# Altium schematic symbol library integrated.SchLib: 126 symbols
Pins are listed as number, name and electrical type; pins without a type are passive.

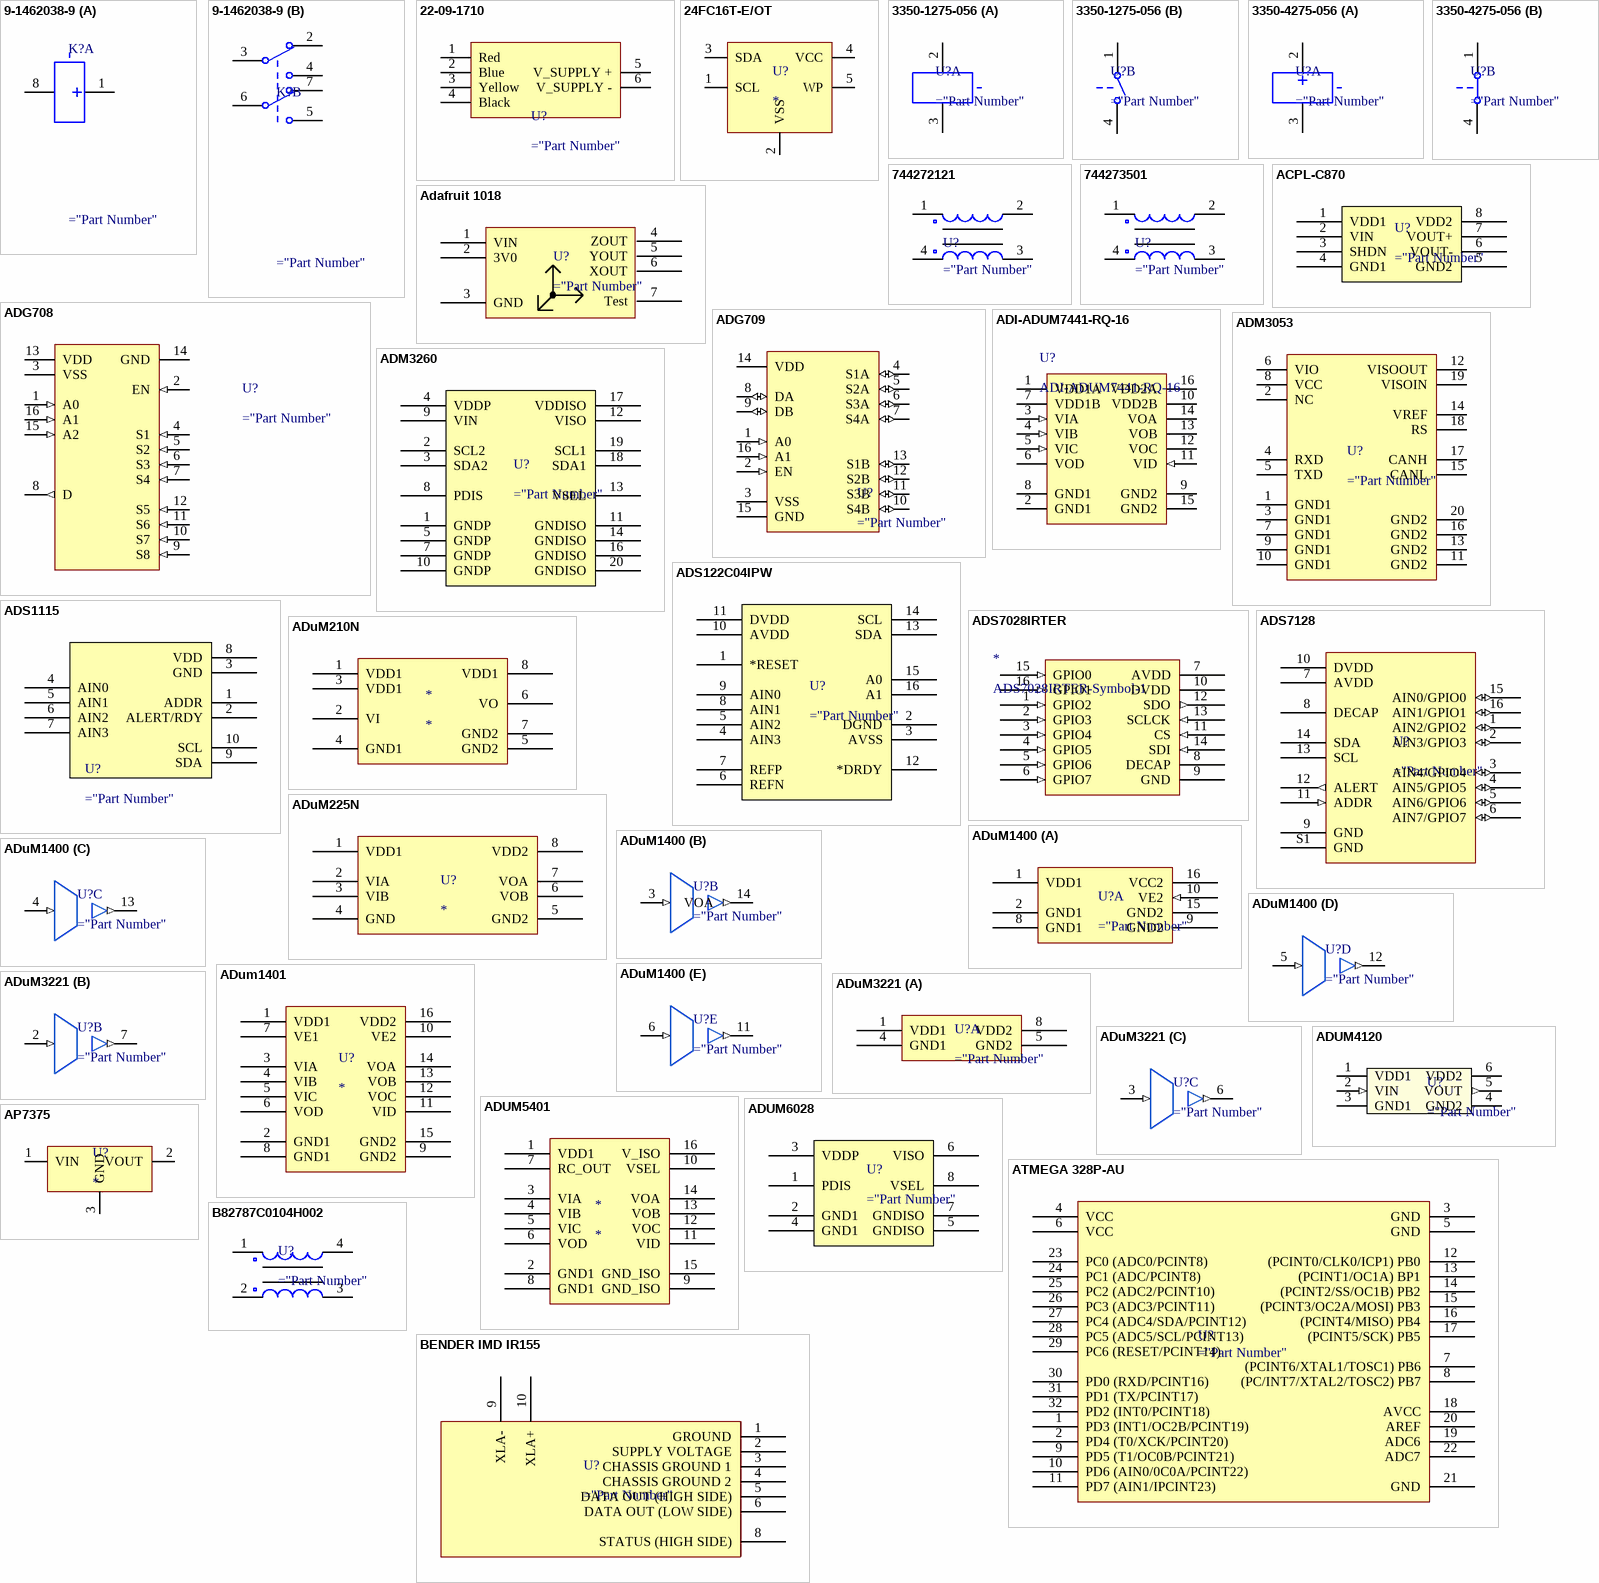
[diagram p0: symbols 9-1462038-9 to BENDER IMD IR155]

## 9-1462038-9
designator K?
part A pins: 1, 8
part B pins: 2, 3, 4, 5, 6, 7

## 22-09-1710
designator U?
pins: 1 Red (power), 2 Blue (power), 3 Yellow (power), 4 Black (power), 5 V_SUPPLY + (power), 6 V_SUPPLY - (power)

## 24FC16T-E/OT
designator U?
pins: 1 SCL, 2 VSS, 3 SDA, 4 VCC, 5 WP

## 3350-1275-056
designator U?
part A pins: 2, 3
part B pins: 1, 4

## 3350-4275-056
designator U?
part A pins: 2, 3
part B pins: 1, 4

## 744272121
designator U?
footprint INDC3216 (Chip Inductor, Body 3.2x1.6mm, IPC High Density)
footprint INDC4532 (Chip Inductor, Body 4.5x3.2mm, IPC High Density)
pins: 1, 2, 3 (power), 4

## 744273501
designator U?
footprint INDC3216 (Chip Inductor, Body 3.2x1.6mm, IPC High Density)
footprint INDC4532 (Chip Inductor, Body 4.5x3.2mm, IPC High Density)
pins: 1, 2, 3 (power), 4

## ACPL-C870
designator U?
pins: 1 VDD1, 2 VIN, 3 SHDN, 4 GND1, 5 GND2, 6 VOUT-, 7 VOUT+, 8 VDD2

## Adafruit 1018
designator U?
pins: 1 VIN, 2 3V0, 3 GND, 4 ZOUT, 5 YOUT, 6 XOUT, 7 Test

## ADG708
designator U?
footprint AD 16-TSSOP
pins: 1 A0 (in), 2 EN (in), 3 VSS (power), 4 S1 (in), 5 S2 (in), 6 S3 (in), 7 S4 (in), 8 D (out), 9 S8 (in), 10 S7 (in), 11 S6 (in), 12 S5 (in), 13 VDD (power), 14 GND (power), 15 A2 (in), 16 A1 (in)

## ADG709
designator U?
pins: 1 A0 (in) "Serial Data Input", 2 EN (in) "Serial Data Input", 3 VSS (power) "Serial Data Input", 4 S1A (io) "Serial Data Input", 5 S2A (io) "Serial Data Input", 6 S3A (io) "Serial Data Input", 7 S4A (io) "Serial Data Input", 8 DA (io) "Serial Data Input", 9 DB (io) "Serial Data Input", 10 S4B (io) "Serial Data Input", 11 S3B (io) "Serial Data Input", 12 S2B (io) "Serial Data Input", 13 S1B (io) "Serial Data Input", 14 VDD (power) "Serial Data Input", 15 GND (power) "Serial Data Input", 16 A1 (in) "Serial Data Input"

## ADI-ADUM7441-RQ-16
designator U?
pins: 1 VDD1A (power) "Supply Voltage A for Isolator Side 1 (3.0 V to 5.5 V). Pin 1 must be connected externally to Pin 7. Connect a ceramic bypass capacitor of value 0.01 uF to 0.1 uF between VDD1A (Pin 1) and GND1 (Pin 2).", 2 GND1 (power) "Ground 1. Ground reference for Isolator Side 1. Pin 2 and Pin 8 are internally connected, and connecting both to GND1 is recommended.", 3 VIA (in) "Logic Input A.", 4 VIB (in) "Logic Input B.", 5 VIC (in) "Logic Input C.", 6 VOD (hiz) "Logic Output D.", 7 VDD1B (power) "Supply Voltage B for Isolator Side 1 (3.0 V to 5.5 V). Pin 7 must be connected externally to Pin 1. Connect a ceramic bypass capacitor of value 0.01 uF to 0.1 uF between VDD1B (Pin 7) and GND1 (Pin 8).", 8 GND1 (power) "Ground 1. Ground reference for Isolator Side 1. Pin 2 and Pin 8 are internally connected, and connecting both to GND1 is recommended.", 9 GND2 (power) "Ground 2. Ground reference for Isolator Side 2. Pin 9 and Pin 15 are internally connected, and connecting both to GND2 is recommended.", 10 VDD2B (power) "Supply Voltage B for Isolator Side 2 (3.0 V to 5.5 V). Pin 10 must be connected externally to Pin 16. Connect a ceramic bypass capacitor of value 0.01 uF to 0.1 uF between VDD2B (Pin 10) and GND2 (Pin 9).", 11 VID (in) "Logic Input D.", 12 VOC (hiz) "Logic Output C.", 13 VOB (hiz) "Logic Output B.", 14 VOA (hiz) "Logic Output A.", 15 GND2 (power) "Ground 2. Ground reference for Isolator Side 2. Pin 9 and Pin 15 are internally connected, and connecting both to GND2 is recommended.", 16 VDD2A (power) "Supply Voltage A for Isolator Side 2 (3.0 V to 5.5 V). Pin 16 must be connected externally to Pin 10. Connect a ceramic bypass capacitor of value 0.01 uF to 0.1 uF between VDD2A (Pin 16) and GND2 (Pin 15)."

## ADM3053
designator U?
pins: 1 GND1, 2 NC, 3 GND1, 4 RXD, 5 TXD, 6 VIO, 7 GND1, 8 VCC, 9 GND1, 10 GND1, 11 GND2, 12 VISOOUT, 13 GND2, 14 VREF, 15 CANL, 16 GND2, 17 CANH, 18 RS, 19 VISOIN, 20 GND2

## ADM3260
designator U?
pins: 1 GNDP, 2 SCL2, 3 SDA2, 4 VDDP, 5 GNDP, 7 GNDP, 8 PDIS, 9 VIN, 10 GNDP, 11 GNDISO, 12 VISO, 13 VSEL, 14 GNDISO, 16 GNDISO, 17 VDDISO, 18 SDA1, 19 SCL1, 20 GNDISO

## ADS122C04IPW
designator U?
pins: 1 *RESET, 2 DGND, 3 AVSS, 4 AIN3, 5 AIN2, 6 REFN, 7 REFP, 8 AIN1, 9 AIN0, 10 AVDD, 11 DVDD, 12 *DRDY, 13 SDA, 14 SCL, 15 A0, 16 A1

## ADS1115
designator U?
pins: 1 ADDR, 2 ALERT/RDY, 3 GND, 4 AIN0, 5 AIN1, 6 AIN2, 7 AIN3, 8 VDD, 9 SDA, 10 SCL

## ADS7028IRTER
designator *, comment ADS7028IRTER-Symbol-1
pins: 1 GPIO2 (in), 2 GPIO3 (in), 3 GPIO4 (in), 4 GPIO5 (in), 5 GPIO6 (in), 6 GPIO7 (in), 7 AVDD (power), 8 DECAP (power), 9 GND (power), 10 DVDD (power), 11 CS (in), 12 SDO (out), 13 SCLCK (in), 14 SDI (in), 15 GPIO0 (in), 16 GPIO1 (in)

## ADS7128
designator U?
pins: 1 AIN2/GPIO2 (io), 2 AIN3/GPIO3 (io), 3 AIN4/GPIO4 (io), 4 AIN5/GPIO5 (io), 5 AIN6/GPIO6 (io), 6 AIN7/GPIO7 (io), 7 AVDD (power), 8 DECAP (power), 9 GND (power), 10 DVDD (power), 11 ADDR (in), 12 ALERT (out), 13 SCL, 14 SDA, 15 AIN0/GPIO0 (io), 16 AIN1/GPIO1 (io), S1 GND (power)

## ADuM210N
designator *
pins: 1 VDD1, 2 VI, 3 VDD1, 4 GND1, 5 GND2, 6 VO, 7 GND2, 8 VDD1

## ADuM225N
designator U?
pins: 1 VDD1, 2 VIA, 3 VIB, 4 GND, 5 GND2, 6 VOB, 7 VOA, 8 VDD2

## ADuM1400
designator U?
part A pins: 1 VDD1 (power) "Output", 2 GND1 (power) "Output", 8 GND1 (power) "Output", 9 GND2 (power) "Output", 10 VE2 (in) "Output", 15 GND2 (power) "Output", 16 VCC2 (power) "Output"
part B pins: 3 VIA (in) "Output", 14 VOA (out) "Output"
part C pins: 4 VIB (in) "Output", 13 VOB (out) "Output"
part D pins: 5 VIC (in) "Output", 12 VOC (out) "Output"
part E pins: 6 VID (in) "Output", 11 VOD (out) "Output"

## ADum1401
designator U?
pins: 1 VDD1, 2 GND1, 3 VIA, 4 VIB, 5 VIC, 6 VOD, 7 VE1, 8 GND1, 9 GND2, 10 VE2, 11 VID, 12 VOC, 13 VOB, 14 VOA, 15 GND2, 16 VDD2

## ADuM3221
designator U?
part A pins: 1 VDD1 "Output", 4 GND1 "Output", 5 GND2 "Output", 8 VDD2 "Output"
part B pins: 2 VIA (in) "Output", 7 VOA (out) "Output"
part C pins: 3 VIA (in) "Output", 6 VOA (out) "Output"

## ADUM4120
designator U?
pins: 1 VDD1 (power), 2 VIN (in), 3 GND1 (power), 4 GND2 (power), 5 VOUT (out), 6 VDD2 (power)

## ADUM5401
designator *
pins: 1 VDD1, 2 GND1, 3 VIA, 4 VIB, 5 VIC, 6 VOD, 7 RC_OUT, 8 GND1, 9 GND_ISO, 10 VSEL, 11 VID, 12 VOC, 13 VOB, 14 VOA, 15 GND_ISO, 16 V_ISO

## ADUM6028
designator U?
pins: 1 PDIS, 2 GND1, 3 VDDP, 4 GND1, 5 GNDISO, 6 VISO, 7 GNDISO, 8 VSEL

## AP7375
designator U?
pins: 1 VIN, 2 VOUT, 3 GND

## ATMEGA 328P-AU
designator U?
pins: 1 PD3 (INT1/OC2B/PCINT19) "(PCINT19/OC2B/INT1) PD3", 2 PD4 (T0/XCK/PCINT20) "(PCINT20/XCK/T0) PD4", 3 GND, 4 VCC, 5 GND, 6 VCC, 7 (PCINT6/XTAL1/TOSC1) PB6, 8 (PC/INT7/XTAL2/TOSC2) PB7, 9 PD5 (T1/OC0B/PCINT21) "(PCINT21/OC0B/T1) PD5", 10 PD6 (AIN0/0C0A/PCINT22) "(PCINT22/OC0A/AIN0) PD6", 11 PD7 (AIN1/IPCINT23) "(PCINT23/AIN1) PD7", 12 (PCINT0/CLK0/ICP1) PB0, 13 (PCINT1/OC1A) BP1, 14 (PCINT2/SS/OC1B) PB2, 15 (PCINT3/OC2A/MOSI) PB3, 16 (PCINT4/MISO) PB4, 17 (PCINT5/SCK) PB5 "PB5 (SCK/PCINT5)", 18 AVCC, 19 ADC6, 20 AREF, 21 GND, 22 ADC7, 23 PC0 (ADC0/PCINT8), 24 PC1 (ADC/PCINT8), 25 PC2 (ADC2/PCINT10), 26 PC3 (ADC3/PCINT11), 27 PC4 (ADC4/SDA/PCINT12), 28 PC5 (ADC5/SCL/PCINT13), 29 PC6 (RESET/PCINT14), 30 PD0 (RXD/PCINT16), 31 PD1 (TX/PCINT17), 32 PD2 (INT0/PCINT18)

## B82787C0104H002
designator U?
pins: 1, 2, 3, 4

## BENDER IMD IR155
designator U?
pins: 1 GROUND "Output", 2 SUPPLY VOLTAGE "Output", 3 CHASSIS GROUND 1 "Output", 4 CHASSIS GROUND 2 "Output", 5 DATA OUT (HIGH SIDE) "Output", 6 DATA OUT (LOW SIDE) "Output", 8 STATUS (HIGH SIDE) "Output", 9 XLA- "Output", 10 XLA+ "Output"

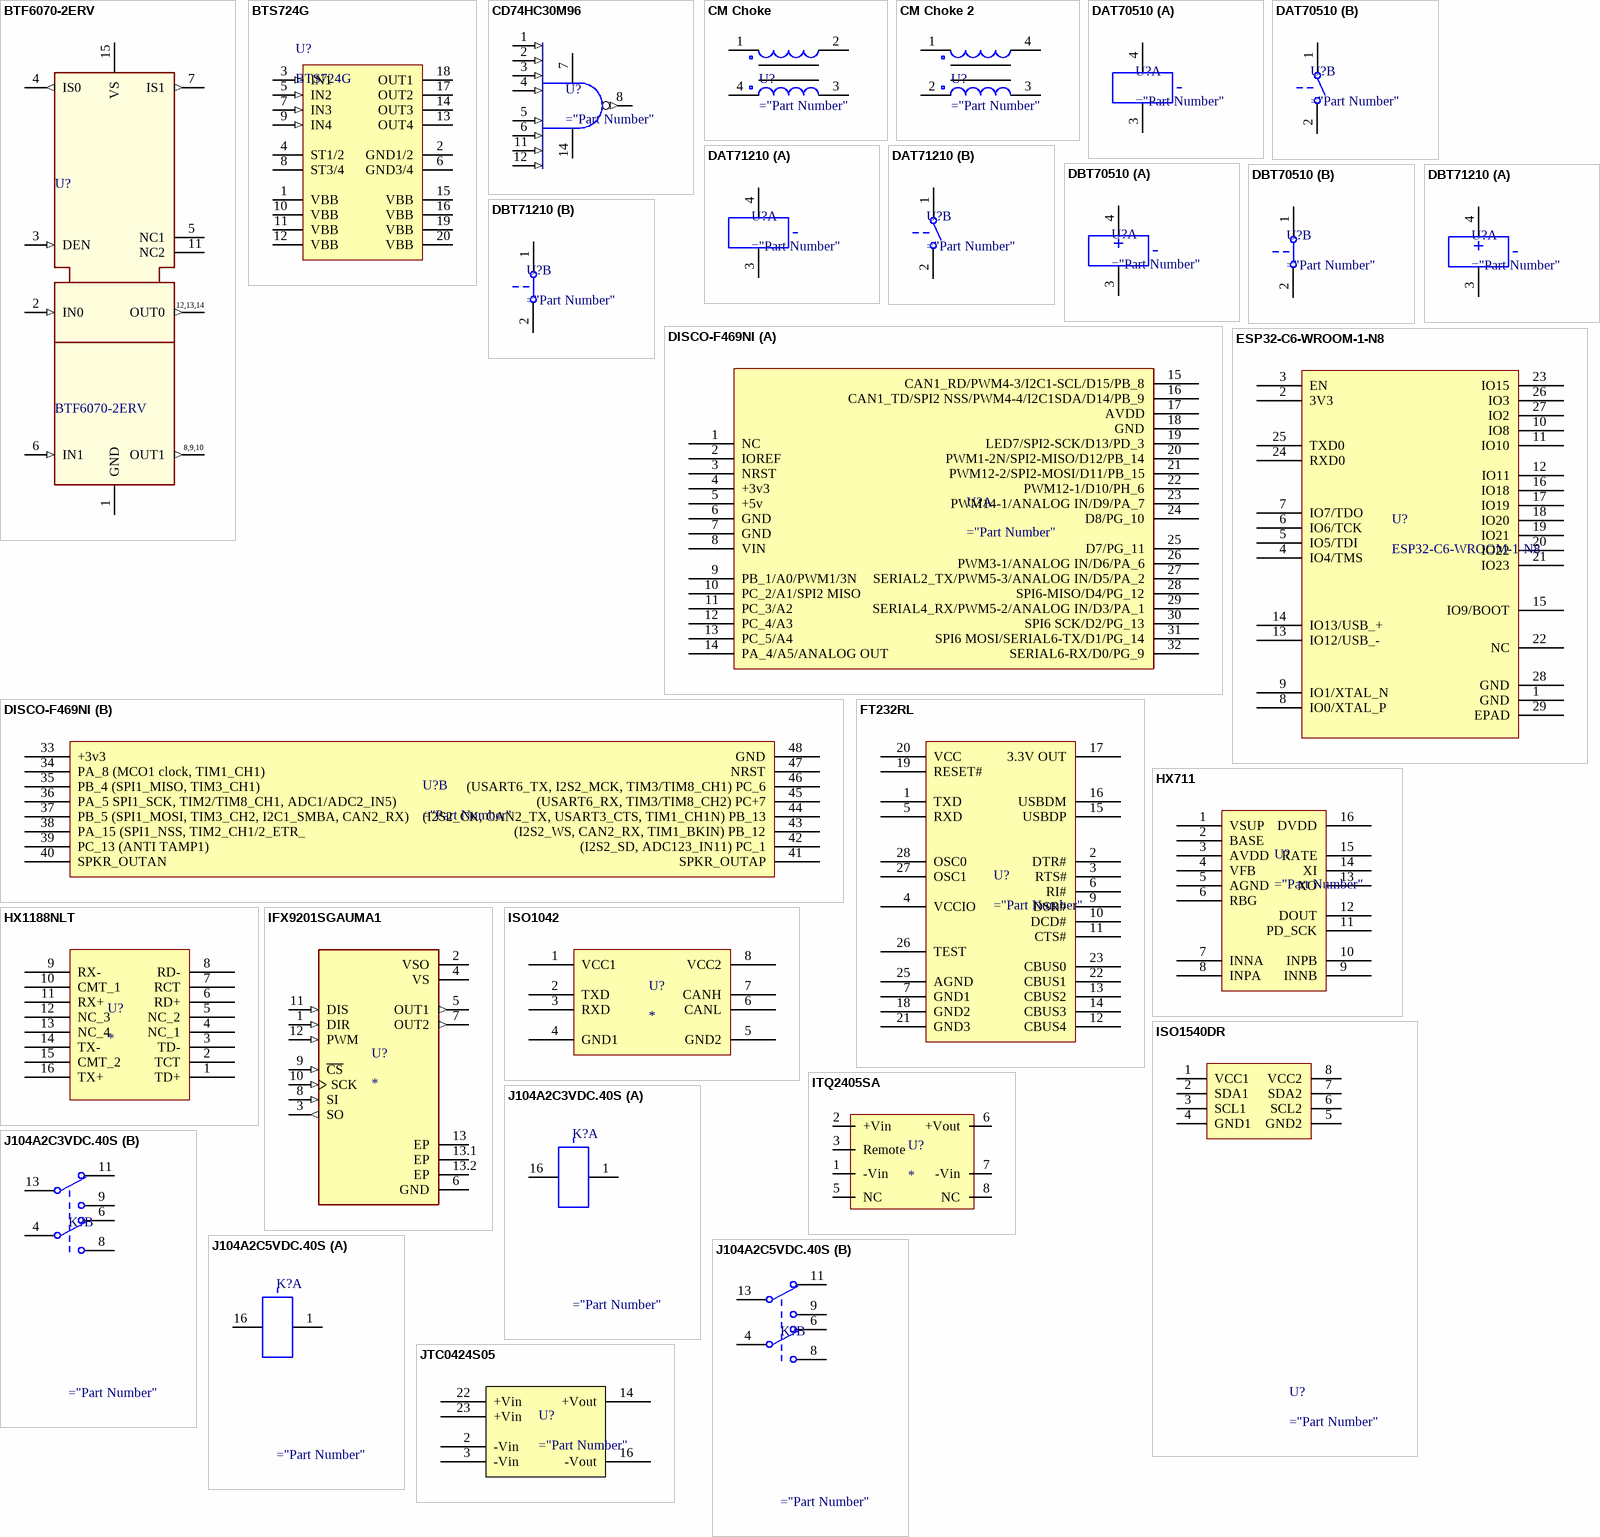
[diagram p1: symbols BTF6070-2ERV to JTC0424S05]

## BTF6070-2ERV
designator U?
Smart High-Side Power Switch, Dual Channel; Manufacturer: Infineon Technologies; PackageReference: PG-TDSO-14-21; ManufacturerPartNumber: BTF6070-2ERV
pins: 1 GND (power) "Ground", 2 IN0 (in) "Input channel 0", 3 DEN (in) "Diagnostic Enable", 4 IS0 (out) "Sense 0", 5 NC1 "Not Connected", 6 IN1 (in) "Input channel 1", 7 IS1 (out) "Sense 1", 8 OUT1 (out) "Output 1", 9 OUT1 (out) "Output 1", 10 OUT1 (out) "Output 1", 11 NC2 "Not Connected", 12 OUT0 (out) "Output 0", 13 OUT0 (out) "Output 0", 14 OUT0 (out) "Output 0", 15 VS (power) "Voltage Supply"
text: 12,13,14; 8,9,10

## BTS724G
designator U?
Smart High-Side Power Switch, 4 Channels, 1.6 A Load Current, -40 to 150 degC, PG-DSO-20-31, Reel, Green; Manufacturer: Infineon; Group: Automotive Qualified; RON(max) @ 150degreesC: 180 mOhm; Recommended Operating Voltage Min.: 5.5 V; Recommended Operating Voltage Max.: 40 V; Green: TRUE; toff (max): 270 us; Load Current (typ): 1.6 A; ton (max): 250 us; RON @ 25degreesC: 90 mOhm; Ptot (max): 3.6 W; Channels: 4; PartNumber: BTS724G; ComponentLink1Description: Manufacturer URL; ComponentLink2Description: Datasheet; DatasheetVersion: Rev. 1.0; ComponentLink3URL: http://www.infineon.com/dgdl/BTS711L1_DS13.pdf?folderId=db3a304314dca389011537739e37155f&fileId=db3a30432239cccd0122e55f98d43c5f&sId=db3a30433d68e984013d81ad4c8d73f2; ComponentLink1URL: http://www.infineon.com/; Packing: Reel; ComponentLink2URL: http://www.infineon.com/dgdl/BTS724G.pdf?folderId=db3a304314dca389011537739e37155f&fileId=db3a304316f112290116f299e245725c&location=en.Products.Automotive_ICs.Smart_High-_and_Low-Side_Switches.PROFET__-_Smart_High_Side_Switches.DATASHEET.BTS724G.pdf; ComponentLink3Description: Package Specification; PackageVersion: Jan-12; Halogen-free: TRUE; Mounting Technology: Surface Mount; PackageReference: PG-DSO-20-31; PackageDescription: 20-Pin Plastic (Green) Dual Small Outline Package, 12.7 x 7.5 mm Body, 1.27 mm Pitch
footprint INF-PG-DSO-20-31_M
footprint INF-PG-DSO-20-31_L
footprint INF-PG-DSO-20-31_N
pins: 1 VBB (power) "Positive power supply voltage. Design the wiring for the simultaneous max. short circuit currents from channel 1 to 2 and also for low thermal resistance", 2 GND1/2 (power) "Ground of chip 1 (channel 1,2)", 3 IN1 (in) "Input 1 activates channel 1 in case of logic high signal", 4 ST1/2 (oc) "Diagnostic feedback 1/2,3/4 of channel 1,2,3,4 open drain, low on failure", 5 IN2 (in) "Input 2 activates channel 2 in case of logic high signal", 6 GND3/4 (power) "Ground of chip 2 (channel 3,4)", 7 IN3 (in) "Input 3 activates channel 3 in case of logic high signal", 8 ST3/4 (oc) "Diagnostic feedback 1/2,3/4 of channel 1,2,3,4 open drain, low on failure", 9 IN4 (in) "Input 4 activates channel 4 in case of logic high signal", 10 VBB (power) "Positive power supply voltage. Design the wiring for the simultaneous max. short circuit currents from channel 1 to 2 and also for low thermal resistance", 11 VBB (power) "Positive power supply voltage. Design the wiring for the simultaneous max. short circuit currents from channel 1 to 2 and also for low thermal resistance", 12 VBB (power) "Positive power supply voltage. Design the wiring for the simultaneous max. short circuit currents from channel 1 to 2 and also for low thermal resistance", 13 OUT4 (power) "Output 1 protected high-side power output of channel 1. Design the wiring for the max. short circuit current", 14 OUT3 (power) "Output 1 protected high-side power output of channel 1. Design the wiring for the max. short circuit current", 15 VBB (power) "Positive power supply voltage. Design the wiring for the simultaneous max. short circuit currents from channel 1 to 2 and also for low thermal resistance", 16 VBB (power) "Positive power supply voltage. Design the wiring for the simultaneous max. short circuit currents from channel 1 to 2 and also for low thermal resistance", 17 OUT2 (power) "Output 1 protected high-side power output of channel 1. Design the wiring for the max. short circuit current", 18 OUT1 (power) "Output 1 protected high-side power output of channel 1. Design the wiring for the max. short circuit current", 19 VBB (power) "Positive power supply voltage. Design the wiring for the simultaneous max. short circuit currents from channel 1 to 2 and also for low thermal resistance", 20 VBB (power) "Positive power supply voltage. Design the wiring for the simultaneous max. short circuit currents from channel 1 to 2 and also for low thermal resistance"

## CD74HC30M96
designator U?
pins: 1 Input (in), 2 Input (in), 3 Input (in), 4 Input (in), 5 Input (in), 6 Input (in), 7 GND (power) "Serial Data Input", 8 Output (out), 11 Input (in), 12 Input (in), 14 VCC (power) "Serial Data Input"
1 alternate drawing of the same symbol

## CM Choke
designator U?
footprint INDC3216 (Chip Inductor, Body 3.2x1.6mm, IPC High Density)
footprint INDC4532 (Chip Inductor, Body 4.5x3.2mm, IPC High Density)
pins: 1, 2, 3 (power), 4

## CM Choke 2
designator U?
footprint INDC3216 (Chip Inductor, Body 3.2x1.6mm, IPC High Density)
footprint INDC4532 (Chip Inductor, Body 4.5x3.2mm, IPC High Density)
pins: 1, 2, 3 (power), 4

## DAT70510
designator U?
part A pins: 3, 4
part B pins: 1, 2

## DAT71210
designator U?
part A pins: 3, 4
part B pins: 1, 2

## DBT70510
designator U?
part A pins: 3, 4
part B pins: 1, 2

## DBT71210
designator U?
part A pins: 3, 4
part B pins: 1, 2

## DISCO-F469NI
designator U?
part A pins: 1 NC, 2 IOREF, 3 NRST, 4 +3v3, 5 +5v, 6 GND, 7 GND, 8 VIN, 9 PB_1/A0/PWM1/3N, 10 PC_2/A1/SPI2 MISO, 11 PC_3/A2, 12 PC_4/A3, 13 PC_5/A4, 14 PA_4/A5/ANALOG OUT, 15 CAN1_RD/PWM4-3/I2C1-SCL/D15/PB_8, 16 CAN1_TD/SPI2 NSS/PWM4-4/I2C1SDA/D14/PB_9, 17 AVDD, 18 GND, 19 LED7/SPI2-SCK/D13/PD_3, 20 PWM1-2N/SPI2-MISO/D12/PB_14, 21 PWM12-2/SPI2-MOSI/D11/PB_15, 22 PWM12-1/D10/PH_6, 23 PWM14-1/ANALOG IN/D9/PA_7, 24 D8/PG_10, 25 D7/PG_11, 26 PWM3-1/ANALOG IN/D6/PA_6, 27 SERIAL2_TX/PWM5-3/ANALOG IN/D5/PA_2, 28 SPI6-MISO/D4/PG_12, 29 SERIAL4_RX/PWM5-2/ANALOG IN/D3/PA_1, 30 SPI6 SCK/D2/PG_13, 31 SPI6 MOSI/SERIAL6-TX/D1/PG_14, 32 SERIAL6-RX/D0/PG_9
part B pins: 33 +3v3, 34 PA_8 (MCO1 clock, TIM1_CH1), 35 PB_4 (SPI1_MISO, TIM3_CH1), 36 PA_5 SPI1_SCK, TIM2/TIM8_CH1, ADC1/ADC2_IN5), 37 PB_5 (SPI1_MOSI, TIM3_CH2, I2C1_SMBA, CAN2_RX), 38 PA_15 (SPI1_NSS, TIM2_CH1/2_ETR_, 39 PC_13 (ANTI TAMP1), 40 SPKR_OUTAN, 41 SPKR_OUTAP, 42 (I2S2_SD, ADC123_IN11) PC_1, 43 (I2S2_WS, CAN2_RX, TIM1_BKIN) PB_12, 44 (I2S2_CK, CAN2_TX, USART3_CTS, TIM1_CH1N) PB_13, 45 (USART6_RX, TIM3/TIM8_CH2) PC+7, 46 (USART6_TX, I2S2_MCK, TIM3/TIM8_CH1) PC_6, 47 NRST, 48 GND

## ESP32-C6-WROOM-1-N8
designator U?
pins: 1 GND, 2 3V3, 3 EN, 4 IO4/TMS, 5 IO5/TDI, 6 IO6/TCK, 7 IO7/TDO, 8 IO0/XTAL_P, 9 IO1/XTAL_N, 10 IO8, 11 IO10, 12 IO11, 13 IO12/USB_-, 14 IO13/USB_+, 15 IO9/BOOT, 16 IO18, 17 IO19, 18 IO20, 19 IO21, 20 IO22, 21 IO23, 22 NC, 23 IO15, 24 RXD0, 25 TXD0, 26 IO3, 27 IO2, 28 GND, 29 EPAD

## FT232RL
designator U?
pins: 1 TXD (power) "Output", 2 DTR# (power) "Output", 3 RTS# (power) "Output", 4 VCCIO (power) "Output", 5 RXD (power) "Output", 6 RI# (power) "Output", 7 GND1 (power) "Output", 9 DSR# (power) "Output", 10 DCD# (power) "Output", 11 CTS# (power) "Output", 12 CBUS4 (power) "Output", 13 CBUS2 (power) "Output", 14 CBUS3 (power) "Output", 15 USBDP (power) "Output", 16 USBDM (power) "Output", 17 3.3V OUT (power) "Output", 18 GND2 (power) "Output", 19 RESET# (power) "Output", 20 VCC (power) "Output", 21 GND3 (power) "Output", 22 CBUS1 (power) "Output", 23 CBUS0 (power) "Output", 25 AGND (power) "Output", 26 TEST (power) "Output", 27 OSC1 (power) "Output", 28 OSC0 (power) "Output"

## HX711
designator U?
pins: 1 VSUP (power), 2 BASE (power), 3 AVDD (power), 4 VFB (power), 5 AGND (power), 6 RBG (power), 7 INNA (power), 8 INPA (power), 9 INNB (power), 10 INPB (power), 11 PD_SCK (power), 12 DOUT (power), 13 XO (power), 14 XI (power), 15 RATE (power), 16 DVDD (power)

## HX1188NLT
designator U?
pins: 1 TD+, 2 TCT, 3 TD-, 4 NC_1, 5 NC_2, 6 RD+, 7 RCT, 8 RD-, 9 RX-, 10 CMT_1, 11 RX+, 12 NC_3, 13 NC_4, 14 TX-, 15 CMT_2, 16 TX+

## IFX9201SGAUMA1
designator U?
RDSon (typ.) < 100m? per switch | Operation Voltage 4.5V to 36 V | Logic inputs: 3.3-V and 5-V TTL/ 5-V CMOS compatible | Low standby current; MF: Infineon Technologies; MP: IFX9201SGAUMA1; Package: BSOP-12 Infineon; Check_prices: https://www.snapeda.com/parts/IFX9201SGAUMA1/Infineon+Technologies/view-part/?ref=eda; Value: *; Purchase-URL: https://pricing.snapeda.com/search/part/IFX9201SGAUMA1/?ref=eda; Availability: In Stock; SnapEDA_Link: https://www.snapeda.com/parts/IFX9201SGAUMA1/Infineon+Technologies/view-part/?ref=snap; Price: None
footprint CONV_IFX9201SGAUMA1
pins: 1 DIR (in), 2 VSO (power), 3 SO (out), 4 VS (power), 5 OUT1 (out), 6 GND (power), 7 OUT2 (out), 8 SI (in), 9 ~{CS} (in), 10 SCK (in), 11 DIS (in), 12 PWM (in), 13 EP (power), 13.1 EP (power), 13.2 EP (power)

## ISO1042
designator U?
pins: 1 VCC1, 2 TXD, 3 RXD, 4 GND1, 5 GND2, 6 CANL, 7 CANH, 8 VCC2

## ISO1540DR
designator U?
pins: 1 VCC1 (power) "Serial Data Input", 2 SDA1 (power) "Serial Data Input", 3 SCL1 (power) "Serial Data Input", 4 GND1 (power) "Serial Data Input", 5 GND2 (power) "Serial Data Input", 6 SCL2 (power) "Serial Data Input", 7 SDA2 (power) "Serial Data Input", 8 VCC2 (power) "Serial Data Input"

## ITQ2405SA
designator U?
pins: 1 -Vin, 2 +Vin, 3 Remote, 5 NC, 6 +Vout, 7 -Vin, 8 NC

## J104A2C3VDC.40S
designator K?
part A pins: 1, 16
part B pins: 4, 6, 8, 9, 11, 13

## J104A2C5VDC.40S
designator K?
RELAY GEN PURPOSE DPDT 3A 5V
part A pins: 1, 16
part B pins: 4, 6, 8, 9, 11, 13

## JTC0424S05
designator U?
pins: 2 -Vin, 3 -Vin, 14 +Vout, 16 -Vout, 22 +Vin, 23 +Vin

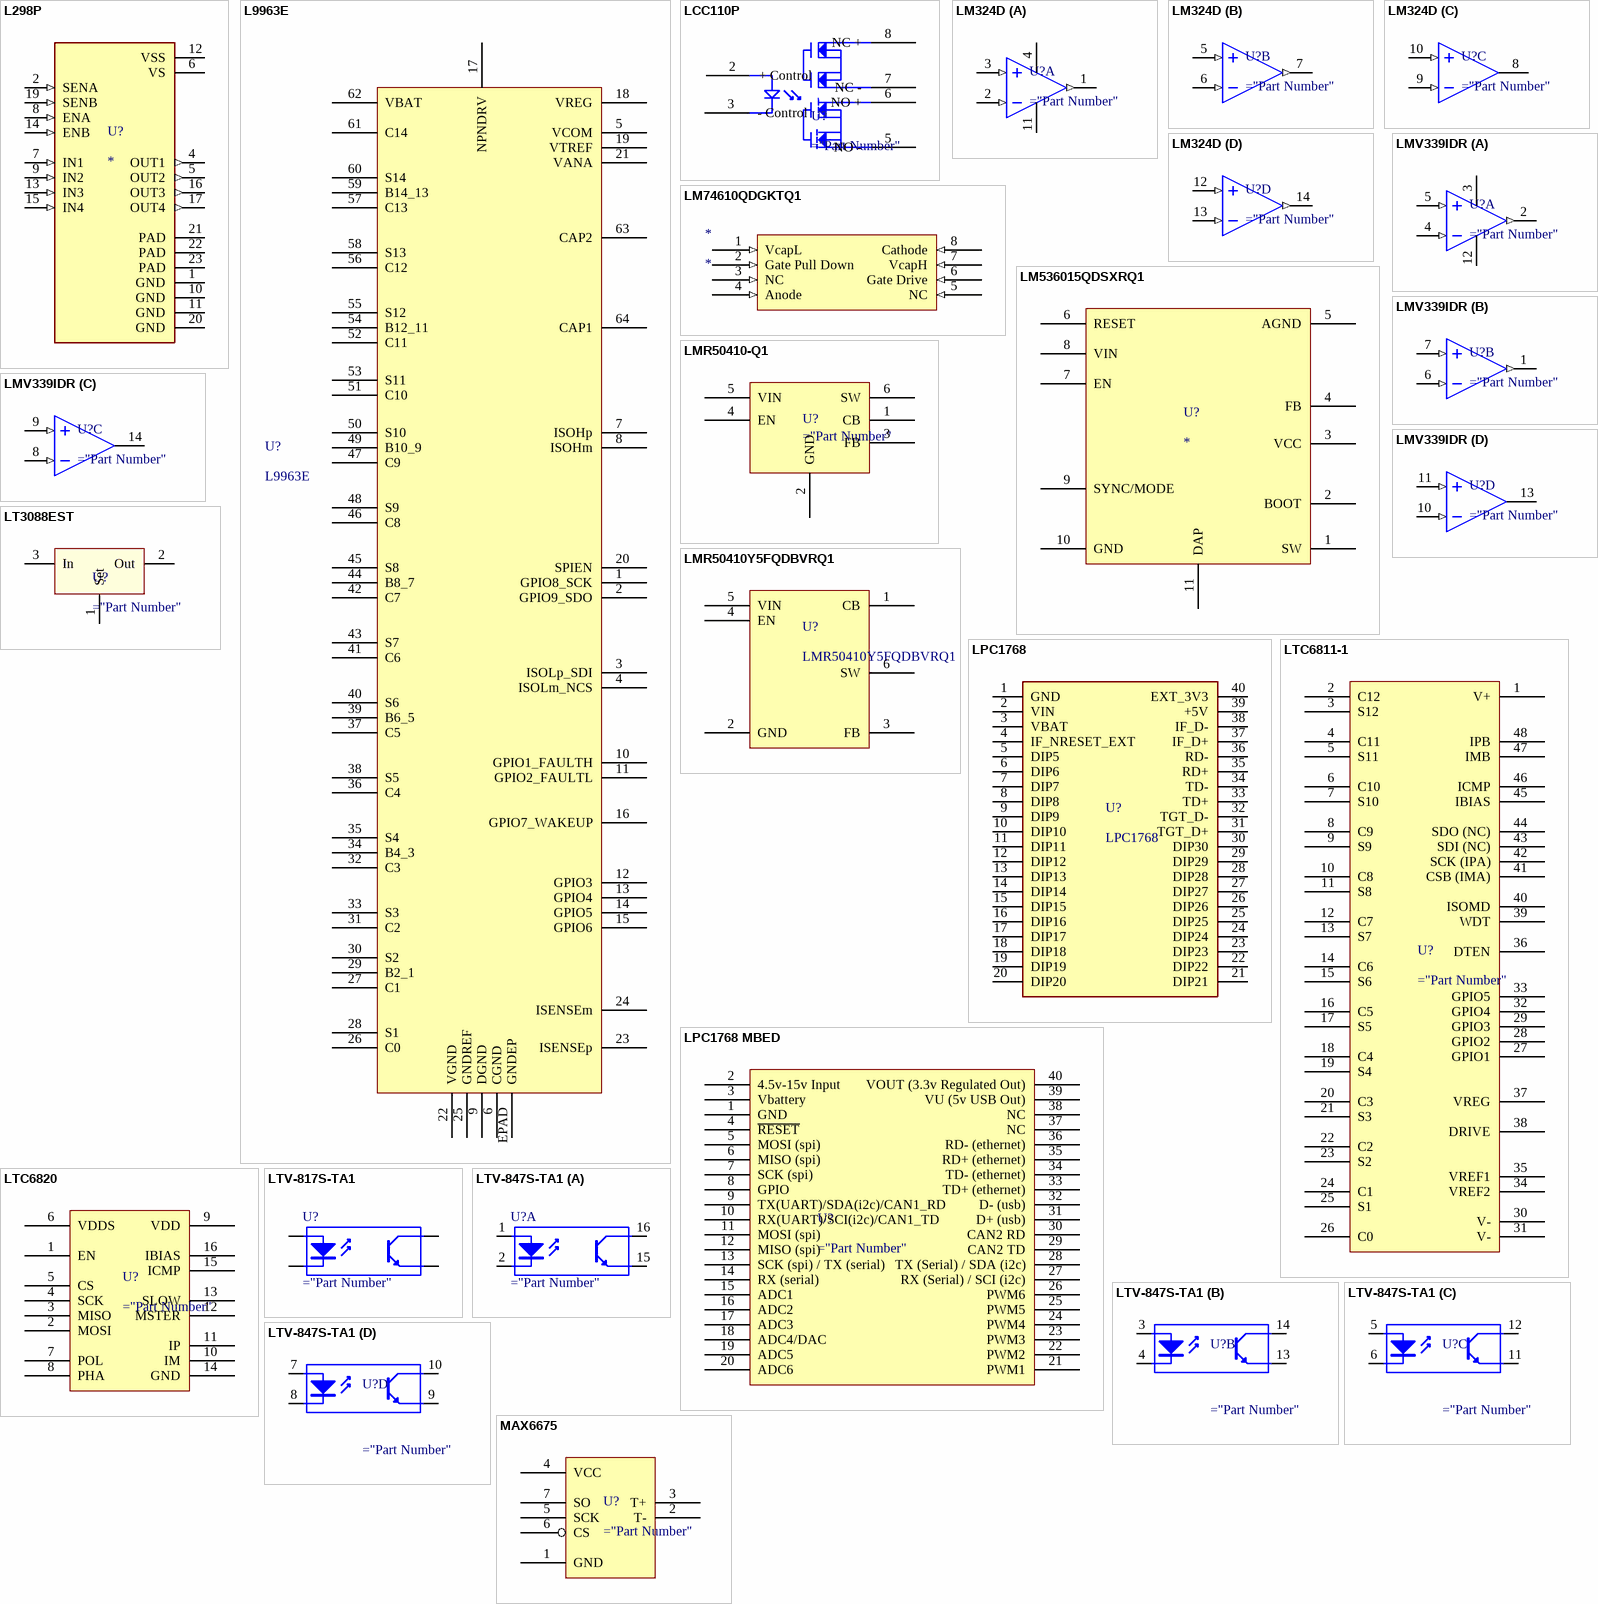
[diagram p2: symbols L298P to MAX6675]

## L298P
designator U?
Half Bridge (4) Driver DC Motors, Relays, Solenoids, Stepper Motors Bipolar PowerSO-20; MP: L298P; MF: STMicroelectronics; Value: *; SnapEDA_Link: https://www.snapeda.com/parts/L298P/STMicroelectronics/view-part/?ref=snap; Package: SO-20 STMicroelectronics; Check_prices: https://www.snapeda.com/parts/L298P/STMicroelectronics/view-part/?ref=eda; Digi-Key_Part_Number: 497-1396-5-ND; Purchase-URL: https://pricing.snapeda.com/search/part/L298P/?ref=eda
footprint SOIC127P1420X360-20N
pins: 1 GND, 2 SENA (in), 4 OUT1 (out), 5 OUT2 (out), 6 VS (power), 7 IN1 (in), 8 ENA (in), 9 IN2 (in), 10 GND, 11 GND, 12 VSS (power), 13 IN3 (in), 14 ENB (in), 15 IN4 (in), 16 OUT3 (out), 17 OUT4 (out), 19 SENB (in), 20 GND, 21 PAD, 22 PAD, 23 PAD

## L9963E
designator U?
pins: 1 GPIO8_SCK, 2 GPIO9_SDO, 3 ISOLp_SDI, 4 ISOLm_NCS, 5 VCOM, 6 CGND, 7 ISOHp, 8 ISOHm, 9 DGND, 10 GPIO1_FAULTH, 11 GPIO2_FAULTL, 12 GPIO3, 13 GPIO4, 14 GPIO5, 15 GPIO6, 16 GPIO7_WAKEUP, 17 NPNDRV, 18 VREG, 19 VTREF, 20 SPIEN, 21 VANA, 22 VGND, 23 ISENSEp, 24 ISENSEm, 25 GNDREF, 26 C0, 27 C1, 28 S1, 29 B2_1, 30 S2, 31 C2, 32 C3, 33 S3, 34 B4_3, 35 S4, 36 C4, 37 C5, 38 S5, 39 B6_5, 40 S6, 41 C6, 42 C7, 43 S7, 44 B8_7, 45 S8, 46 C8, 47 C9, 48 S9, 49 B10_9, 50 S10, 51 C10, 52 C11, 53 S11, 54 B12_11, 55 S12, 56 C12, 57 C13, 58 S13, 59 B14_13, 60 S14, 61 C14, 62 VBAT, 63 CAP2, 64 CAP1, EPAD GNDEP

## LCC110P
designator U?
pins: 2 + Control, 3 - Control, 5 NO -, 6 NO +, 7 NC -, 8 NC +

## LM324D
designator U?
footprint TI 14-SOIC
part A pins: 1 1OUT (out), 2 1IN+ (in), 3 1IN+ (in), 4 VCC (power) "Serial Data Input", 11 GND (power) "Serial Data Input"
part B pins: 5 2IN+ (in), 6 2IN- (in), 7 2OUT (out)
part C pins: 8 3OUT, 9 3IN- (in), 10 3IN+ (in)
part D pins: 12 4IN+ (in), 13 4IN- (in), 14 4OUT (out)

## LM74610QDGKTQ1
designator *
pins: 1 VcapL (in), 2 Gate Pull Down (in), 3 NC (in), 4 Anode (in), 5 NC (in), 6 Gate Drive (in), 7 VcapH (in), 8 Cathode (in)

## LM536015QDSXRQ1
designator U?
pins: 1 SW, 2 BOOT, 3 VCC, 4 FB, 5 AGND, 6 RESET, 7 EN, 8 VIN, 9 SYNC/MODE, 10 GND, 11 DAP

## LMR50410-Q1
designator U?
pins: 1 CB, 2 GND, 3 FB, 4 EN, 5 VIN, 6 SW

## LMR50410Y5FQDBVRQ1
designator U?
pins: 1 CB, 2 GND, 3 FB, 4 EN, 5 VIN, 6 SW

## LMV339IDR
designator U?
part A pins: 2 OUT A (out), 3 V+ (power) "Serial Data Input", 4 IN A- (in), 5 IN A+ (in), 12 V- (power) "Serial Data Input"
part B pins: 1 OUT B (out), 6 IN B- (in), 7 IN B+ (in)
part C pins: 8 IN C- (in), 9 IN C+ (in), 14 OUT C
part D pins: 10 IN D- (in), 11 IN D+ (in), 13 OUT D

## LPC1768
designator U?
Mbed LPC1768 Development PCB
pins: 1 GND, 2 VIN, 3 VBAT, 4 IF_NRESET_EXT, 5 DIP5, 6 DIP6, 7 DIP7, 8 DIP8, 9 DIP9, 10 DIP10, 11 DIP11, 12 DIP12, 13 DIP13, 14 DIP14, 15 DIP15, 16 DIP16, 17 DIP17, 18 DIP18, 19 DIP19, 20 DIP20, 21 DIP21, 22 DIP22, 23 DIP23, 24 DIP24, 25 DIP25, 26 DIP26, 27 DIP27, 28 DIP28, 29 DIP29, 30 DIP30, 31 TGT_D+, 32 TGT_D-, 33 TD+, 34 TD-, 35 RD+, 36 RD-, 37 IF_D+, 38 IF_D-, 39 +5V, 40 EXT_3V3

## LPC1768 MBED
designator U?
pins: 1 GND, 2 4.5v-15v Input, 3 Vbattery, 4 ~{RESET}, 5 MOSI (spi), 6 MISO (spi), 7 SCK (spi), 8 GPIO, 9 TX(UART)/SDA(i2c)/CAN1_RD, 10 RX(UART)/SCI(i2c)/CAN1_TD, 11 MOSI (spi), 12 MISO (spi), 13 SCK (spi) / TX (serial), 14 RX (serial), 15 ADC1, 16 ADC2, 17 ADC3, 18 ADC4/DAC, 19 ADC5, 20 ADC6, 21 PWM1, 22 PWM2, 23 PWM3, 24 PWM4, 25 PWM5, 26 PWM6, 27 RX (Serial) / SCI (i2c), 28 TX (Serial) / SDA (i2c), 29 CAN2 TD, 30 CAN2 RD, 31 D+ (usb), 32 D- (usb), 33 TD+ (ethernet), 34 TD- (ethernet), 35 RD+ (ethernet), 36 RD- (ethernet), 37 NC, 38 NC, 39 VU (5v USB Out), 40 VOUT (3.3v Regulated Out)

## LT3088EST
designator U?
pins: 1 Set, 2 Out, 3 In

## LTC6811-1
designator U?
pins: 1 V+ "Output", 2 C12 "Output", 3 S12 "Output", 4 C11 "Output", 5 S11 "Output", 6 C10 "Output", 7 S10 "Output", 8 C9 "Output", 9 S9 "Output", 10 C8 "Output", 11 S8 "Output", 12 C7 "Output", 13 S7 "Output", 14 C6 "Output", 15 S6 "Output", 16 C5 "Output", 17 S5 "Output", 18 C4 "Output", 19 S4 "Output", 20 C3 "Output", 21 S3 "Output", 22 C2 "Output", 23 S2 "Output", 24 C1 "Output", 25 S1 "Output", 26 C0 "Output", 27 GPIO1 "Output", 28 GPIO2 "Output", 29 GPIO3 "Output", 30 V- "Output", 31 V- "Output", 32 GPIO4 "Output", 33 GPIO5 "Output", 34 VREF2 "Output", 35 VREF1 "Output", 36 DTEN "Output", 37 VREG "Output", 38 DRIVE "Output", 39 WDT "Output", 40 ISOMD "Output", 41 CSB (IMA) "Output", 42 SCK (IPA) "Output", 43 SDI (NC) "Output", 44 SDO (NC) "Output", 45 IBIAS "Output", 46 ICMP "Output", 47 IMB "Output", 48 IPB "Output"

## LTC6820
designator U?
pins: 1 EN, 2 MOSI, 3 MISO, 4 SCK, 5 CS, 6 VDDS, 7 POL, 8 PHA, 9 VDD, 10 IM, 11 IP, 12 MSTER, 13 SLOW, 14 GND, 15 ICMP, 16 IBIAS

## LTV-817S-TA1
designator U?
pins: 1 A "Anode", 2 K "Cathode", 3 E "Emitter", 4 C "Collector"

## LTV-847S-TA1
designator U?
part A pins: 1 A "Anode", 2 K "Cathode", 15 E "Emitter", 16 C "Collector"
part B pins: 3 A "Anode", 4 K "Cathode", 13 E "Emitter", 14 C "Collector"
part C pins: 5 A "Anode", 6 K "Cathode", 11 E "Emitter", 12 C "Collector"
part D pins: 7 A "Anode", 8 K "Cathode", 9 E "Emitter", 10 C "Collector"

## MAX6675
designator U?
pins: 1 GND (power) "Output", 2 T- (power) "Output", 3 T+ (power) "Output", 4 VCC (power) "Output", 5 SCK (power) "Output", 6 CS (power) "Output", 7 SO (power) "Output"

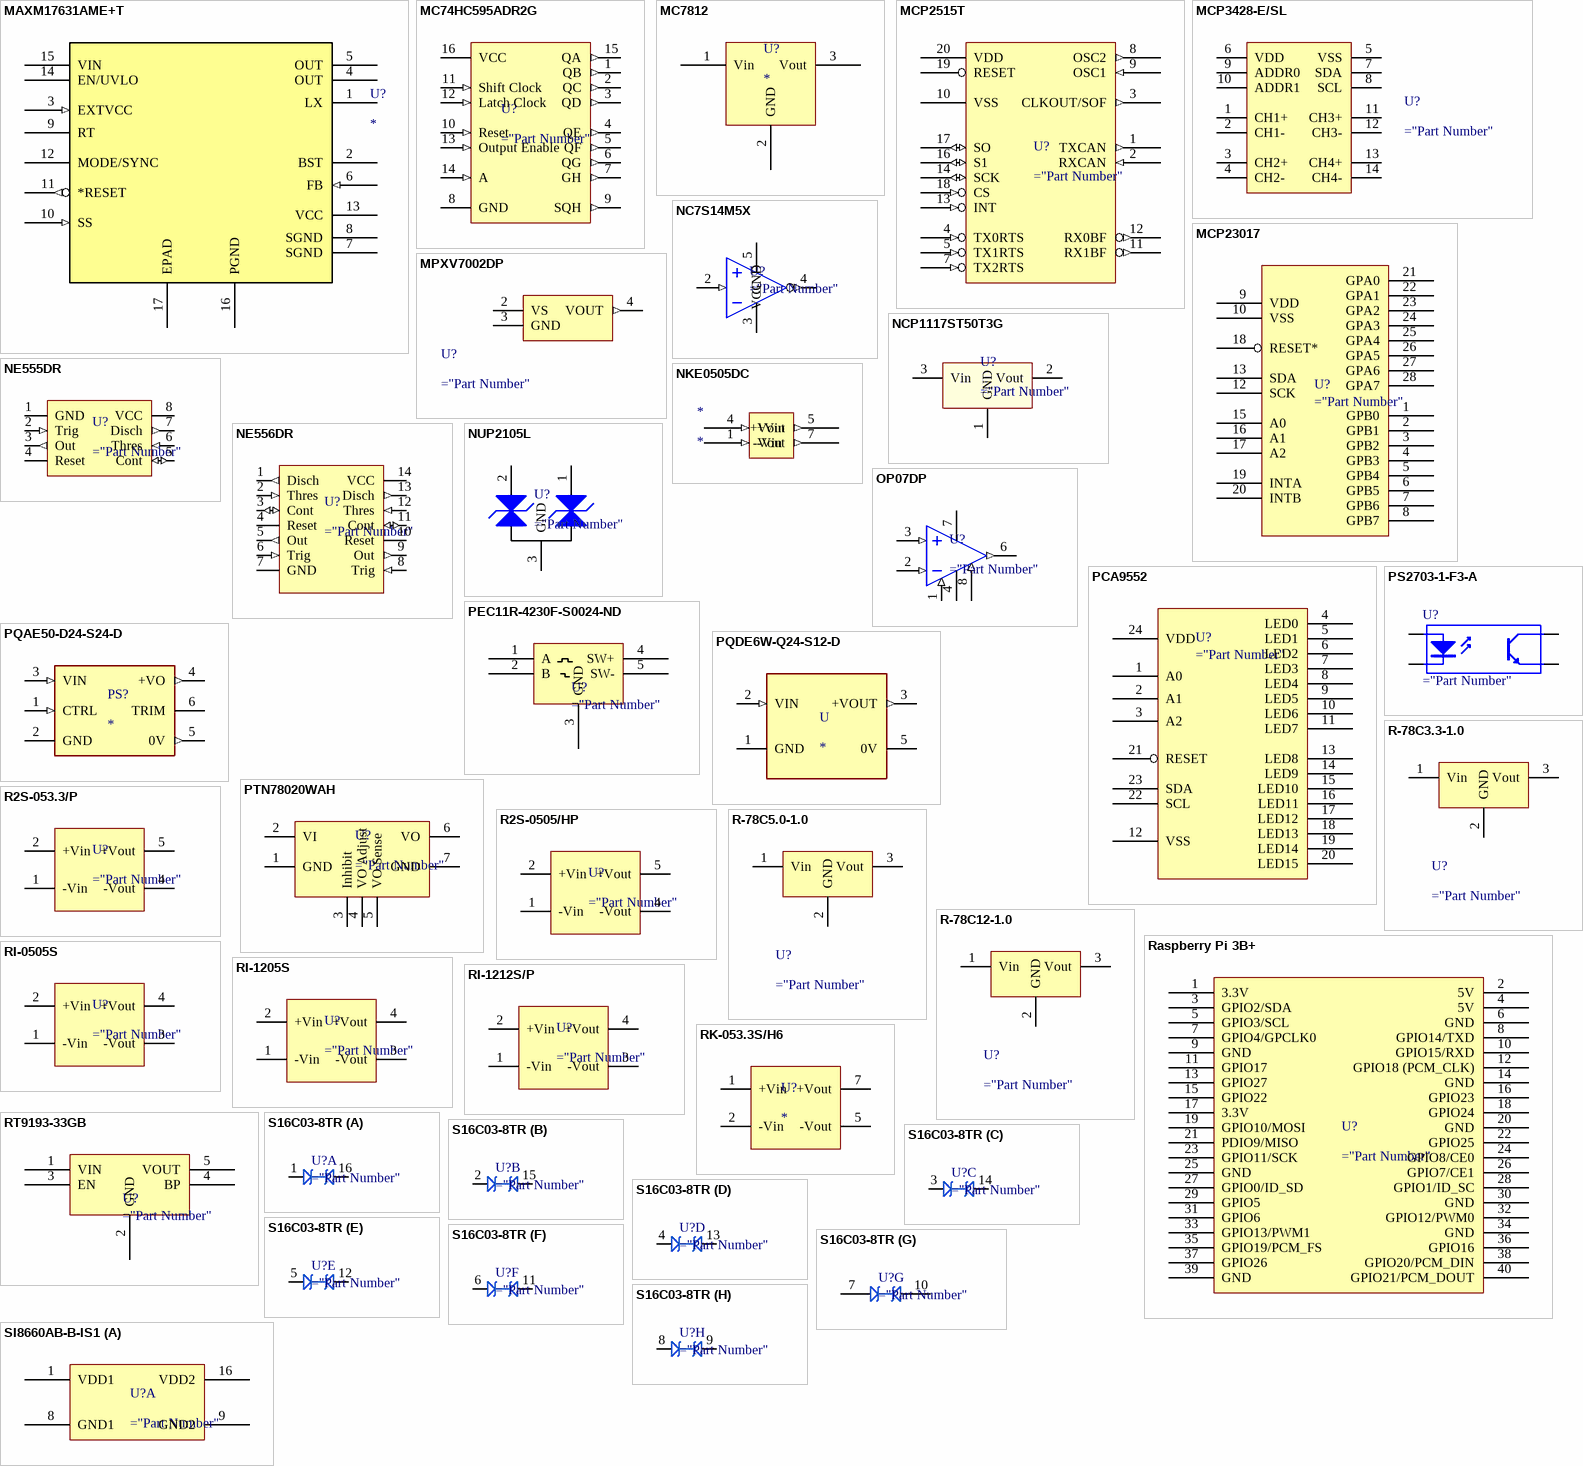
[diagram p3: symbols MAXM17631AME+T to SI8660AB-B-IS1]

## MAXM17631AME+T
designator U?
No Description Available; Mfr_Name: Analog Devices Inc; Digi-Key_Part_Number_1: 175-MAXM17631AME+TTR-ND; RefDes: RefDes; Type: Type
footprint 21-100298_90-100110_MXM
pins: 1 LX, 2 BST, 3 EXTVCC (in), 4 OUT (power), 5 OUT (power), 6 FB (in), 7 SGND (power), 8 SGND (power), 9 RT, 10 SS (in), 11 *RESET (out), 12 MODE/SYNC, 13 VCC (power), 14 EN/UVLO, 15 VIN (power), 16 PGND (power), 17 EPAD (power)

## MC74HC595ADR2G
designator U?
pins: 1 QB (out) "Serial Data Input", 2 QC (out) "Serial Data Input", 3 QD (out) "Serial Data Input", 4 QE (out) "Serial Data Input", 5 QF (out) "Serial Data Input", 6 QG (out) "Serial Data Input", 7 GH (out) "Serial Data Input", 8 GND (power), 9 SQH (out) "Serial Data Output", 10 Reset (in), 11 Shift Clock (in), 12 Latch Clock (in), 13 Output Enable (in), 14 A (in) "Serial Data Input", 15 QA (out) "Serial Data Input", 16 VCC (power)

## MC7812
designator U?
pins: 1 Vin, 2 GND, 3 Vout

## MCP2515T
designator U?
pins: 1 TXCAN (out) "Output", 2 RXCAN (in) "Output", 3 CLKOUT/SOF (out) "Output", 4 TX0RTS (in) "Output", 5 TX1RTS (in) "Output", 7 TX2RTS (in) "Output", 8 OSC2 (out) "Output", 9 OSC1 (in) "Output", 10 VSS (power) "Output", 11 RX1BF (out) "Output", 12 RX0BF (out) "Output", 13 INT (in) "Output", 14 SCK (io) "Output", 16 S1 (io) "Output", 17 SO (io) "Output", 18 CS (in) "Output", 19 RESET "Output", 20 VDD (power) "Output"

## MCP3428-E/SL
designator U?
pins: 1 CH1+ (power) "Serial Data Input", 2 CH1- (power) "Serial Data Input", 3 CH2+ (power) "Serial Data Input", 4 CH2- (power) "Serial Data Input", 5 VSS (power) "Serial Data Input", 6 VDD (power) "Serial Data Input", 7 SDA (power) "Serial Data Input", 8 SCL (power) "Serial Data Input", 9 ADDR0 (power) "Serial Data Input", 10 ADDR1 (power) "Serial Data Input", 11 CH3+ (power) "Serial Data Input", 12 CH3- (power) "Serial Data Input", 13 CH4+ (power) "Serial Data Input", 14 CH4- (power) "Serial Data Input"

## MCP23017
designator U?
pins: 1 GPB0, 2 GPB1, 3 GPB2, 4 GPB3, 5 GPB4, 6 GPB5, 7 GPB6, 8 GPB7, 9 VDD, 10 VSS, 12 SCK, 13 SDA, 15 A0, 16 A1, 17 A2, 18 RESET*, 19 INTA, 20 INTB, 21 GPA0, 22 GPA1, 23 GPA2, 24 GPA3, 25 GPA4, 26 GPA5, 27 GPA6, 28 GPA7

## MPXV7002DP
designator U?
footprint NXP 8-SOP
pins: 2 VS (power), 3 GND (power), 4 VOUT (out)

## NC7S14M5X
designator U?
pins: 2 In (in), 3 GND (power), 4 Out (out), 5 VCC (power)

## NCP1117ST50T3G
designator U?
pins: 1 GND, 2 Vout, 3 Vin

## NE555DR
designator U?
pins: 1 GND (power), 2 Trig (in), 3 Out (out), 4 Reset, 5 Cont (io), 6 Thres (in), 7 Disch (out), 8 VCC

## NE556DR
designator U?
pins: 1 Disch (out), 2 Thres (in), 3 Cont (io), 4 Reset, 5 Out (out), 6 Trig (in), 7 GND (power), 8 Trig (in), 9 Out (out), 10 Reset, 11 Cont (io), 12 Thres (in), 13 Disch (out), 14 VCC

## NKE0505DC
designator *
pins: 1 -Vin (in), 4 +Vin (in), 5 +Vout (out), 7 -Vout (out)

## NUP2105L
designator U?
footprint ON SOT-23 BJT (NUP2105L)
pins: 1 CAN H, 2 CAN L, 3 GND

## OP07DP
designator U?
pins: 1 OFFSET N1 (in) "Serial Data Input", 2 IN- (in), 3 IN+ (in), 4 VCC- (power) "Serial Data Input", 6 OUT (out), 7 VCC+ (power) "Serial Data Input", 8 OFFSET N2 (in) "Serial Data Input"

## PCA9552
designator U?
pins: 1 A0, 2 A1, 3 A2, 4 LED0, 5 LED1, 6 LED2, 7 LED3, 8 LED4, 9 LED5, 10 LED6, 11 LED7, 12 VSS, 13 LED8, 14 LED9, 15 LED10, 16 LED11, 17 LED12, 18 LED13, 19 LED14, 20 LED15, 21 RESET, 22 SCL, 23 SDA, 24 VDD

## PEC11R-4230F-S0024-ND
designator U?
pins: 1 A (power) "Output", 2 B (power) "Output", 3 GND (power) "Output", 4 SW+ (power) "Output", 5 SW- (power) "Output"

## PQAE50-D24-S24-D
designator PS?
MP: PQAE50-D24-S24-D; MF: {'manufacturer': u'CUI'}; Price: None; Availability: Unavailable; Package: None; Value: *
footprint CONV_PQAE50-D24-S24-D
pins: 1 CTRL (in), 2 GND (power), 3 VIN (in), 4 +VO (out), 5 0V (out), 6 TRIM

## PQDE6W-Q24-S12-D
designator U
MP: PQDE6W-Q24-S12-D; MF: {'manufacturer': u'CUI'}; Package: None; Value: *; Price: None; Availability: Unavailable
footprint CONV_PQDE6W-Q24-S12-D
pins: 1 GND (power), 2 VIN (in), 3 +VOUT (out), 5 0V (power)

## PS2703-1-F3-A
designator U?
pins: 1 A "Anode", 2 K "Cathode", 3 E "Emitter", 4 C "Collector"

## PTN78020WAH
designator U?
pins: 1 GND (power) "Serial Data Input", 2 VI (power) "Serial Data Input", 3 Inhibit (power) "Serial Data Input", 4 VO Adjust (power) "Serial Data Input", 5 VO Sense (power) "Serial Data Input", 6 VO (power) "Serial Data Input", 7 GND (power) "Serial Data Input"

## R2S-053.3/P
designator U?
pins: 1 -Vin (power), 2 +Vin (power), 4 -Vout (power), 5 +Vout (power)

## R2S-0505/HP
designator U?
pins: 1 -Vin (power), 2 +Vin (power), 4 -Vout (power), 5 +Vout (power)

## R-78C3.3-1.0
designator U?
pins: 1 Vin, 2 GND, 3 Vout

## R-78C5.0-1.0
designator U?
pins: 1 Vin, 2 GND, 3 Vout

## R-78C12-1.0
designator U?
pins: 1 Vin, 2 GND, 3 Vout

## Raspberry Pi 3B+
designator U?
pins: 1 3.3V (power) "Output", 2 5V (power) "Output", 3 GPIO2/SDA (power) "Output", 4 5V (power) "Output", 5 GPIO3/SCL (power) "Output", 6 GND (power) "Output", 7 GPIO4/GPCLK0 (power) "Output", 8 GPIO14/TXD (power) "Output", 9 GND (power) "Output", 10 GPIO15/RXD (power) "Output", 11 GPIO17 (power) "Output", 12 GPIO18 (PCM_CLK) (power) "Output", 13 GPIO27 (power) "Output", 14 GND (power) "Output", 15 GPIO22 (power) "Output", 16 GPIO23 (power) "Output", 17 3.3V (power) "Output", 18 GPIO24 (power) "Output", 19 GPIO10/MOSI (power) "Output", 20 GND (power) "Output", 21 PDIO9/MISO (power) "Output", 22 GPIO25 (power) "Output", 23 GPIO11/SCK (power) "Output", 24 GPIO8/CE0 (power) "Output", 25 GND (power) "Output", 26 GPIO7/CE1 (power) "Output", 27 GPIO0/ID_SD (power) "Output", 28 GPIO1/ID_SC (power) "Output", 29 GPIO5 (power) "Output", 30 GND (power) "Output", 31 GPIO6 (power) "Output", 32 GPIO12/PWM0 (power) "Output", 33 GPIO13/PWM1 (power) "Output", 34 GND (power) "Output", 35 GPIO19/PCM_FS (power) "Output", 36 GPIO16 (power) "Output", 37 GPIO26 (power) "Output", 38 GPIO20/PCM_DIN (power) "Output", 39 GND (power) "Output", 40 GPIO21/PCM_DOUT (power) "Output"

## RI-0505S
designator U?
pins: 1 -Vin (power), 2 +Vin (power), 3 -Vout (power), 4 +Vout (power)

## RI-1205S
designator U?
pins: 1 -Vin (power), 2 +Vin (power), 3 -Vout (power), 4 +Vout (power)

## RI-1212S/P
designator U?
pins: 1 -Vin (power), 2 +Vin (power), 3 -Vout (power), 4 +Vout (power)

## RK-053.3S/H6
designator U?
pins: 1 +Vin (power), 2 -Vin (power), 5 -Vout (power), 7 +Vout (power)

## RT9193-33GB
designator U?
pins: 1 VIN, 2 GND, 3 EN, 4 BP, 5 VOUT

## S16C03-8TR
designator U?
part A pins: 1 A, 16 A
part B pins: 2 A, 15 A
part C pins: 3 A, 14 A
part D pins: 4 A, 13 A
part E pins: 5 A, 12 A
part F pins: 6 A, 11 A
part G pins: 7 A, 10 A
part H pins: 8 A, 9 A

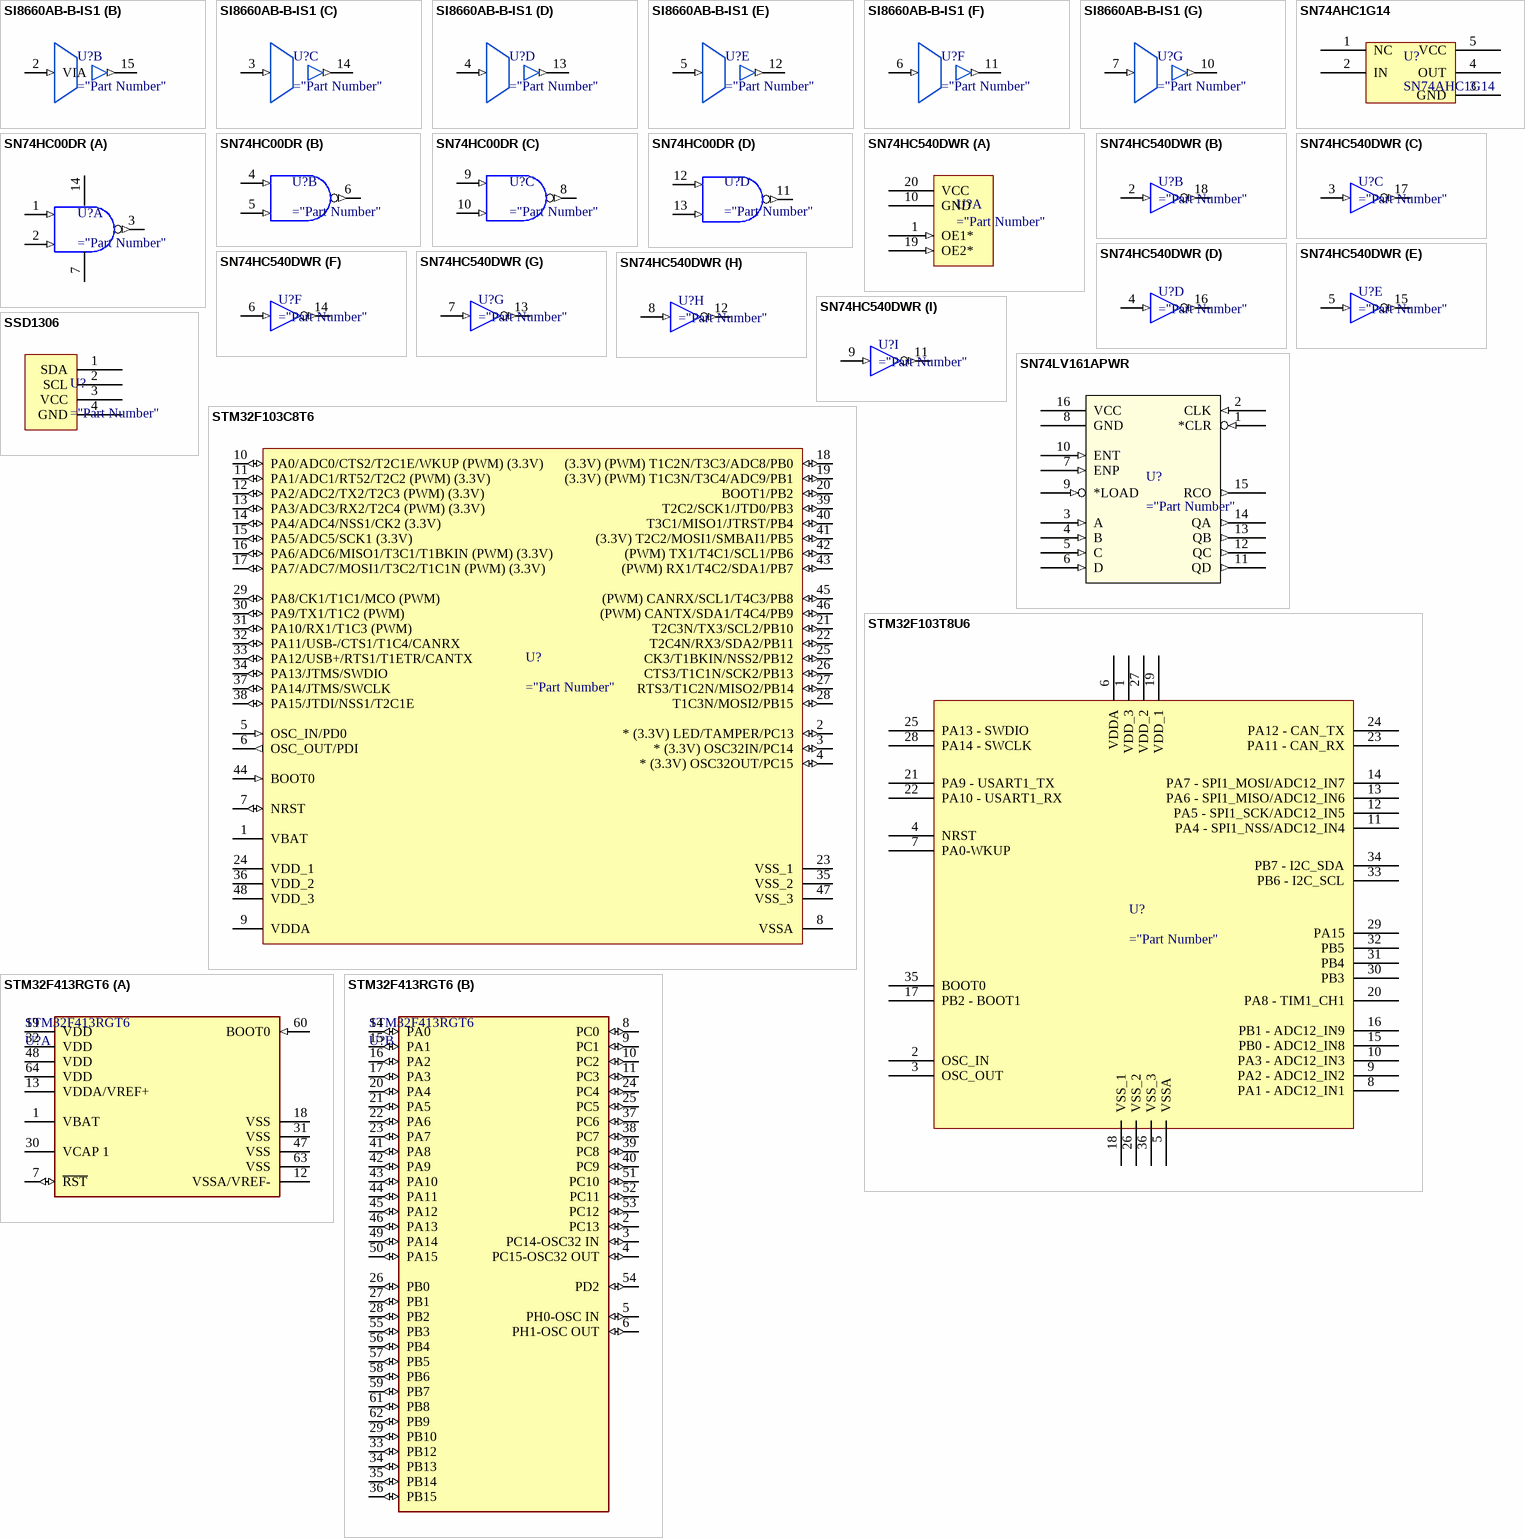
[diagram p4: symbols SI8660AB-B-IS1 to STM32F413RGT6]

## SI8660AB-B-IS1
designator U?
part A pins: 1 VDD1 (power) "Output", 8 GND1 (power) "Output", 9 GND2 (power) "Output", 16 VDD2 (power) "Output"
part B pins: 2 VIA (in) "Output", 15 VOA (out) "Output"
part C pins: 3 VIB (in) "Output", 14 VOB (out) "Output"
part D pins: 4 VIC (in) "Output", 13 VOC (out) "Output"
part E pins: 5 VID (in) "Output", 12 VOD (out) "Output"
part F pins: 6 VID (in) "Output", 11 VOD (out) "Output"
part G pins: 7 VID (in) "Output", 10 VOD (out) "Output"

## SN74AHC1G14
designator U?
pins: 1 NC, 2 IN, 3 GND, 4 OUT, 5 VCC

## SN74HC00DR
designator U?
part A pins: 1 1A (in), 2 1B (in), 3 1Y (out), 7 GND (power) "Serial Data Input", 14 VCC (power) "Serial Data Input"
part B pins: 4 2A (in), 5 2B (in), 6 2Y (out)
part C pins: 8 3Y (out), 9 3A (in), 10 3B (in)
part D pins: 11 4Y (out), 12 4A (in), 13 4B (in)

## SN74HC540DWR
designator U?
part A pins: 1 OE1* (in), 10 GND (power), 19 OE2* (in), 20 VCC (power)
part B pins: 2 A1 (in), 18 Y1 (out)
part C pins: 3 A2 (in), 17 Y2 (out)
part D pins: 4 A3 (in), 16 Y3 (out)
part E pins: 5 A4 (in), 15 Y5 (out)
part F pins: 6 A5 (in), 14 Y5 (out)
part G pins: 7 A6 (in), 13 Y6 (out)
part H pins: 8 A7 (in), 12 Y7 (out)
part I pins: 9 A8 (in), 11 Y8 (out)

## SN74LV161APWR
designator U?
pins: 1 *CLR (in), 2 CLK (in), 3 A (in), 4 B (in), 5 C (in), 6 D (in), 7 ENP (in), 8 GND (power), 9 *LOAD (in), 10 ENT (in), 11 QD (out), 12 QC (out), 13 QB (out), 14 QA (out), 15 RCO (out), 16 VCC (power)

## SSD1306
designator U?
pins: 1 SDA, 2 SCL, 3 VCC, 4 GND

## STM32F103C8T6
designator U?
pins: 1 VBAT (power), 2 * (3.3V) LED/TAMPER/PC13 (io), 3 * (3.3V) OSC32IN/PC14 (io), 4 * (3.3V) OSC32OUT/PC15 (io), 5 OSC_IN/PD0 (in), 6 OSC_OUT/PDI (out), 7 NRST (io), 8 VSSA (power), 9 VDDA (power), 10 PA0/ADC0/CTS2/T2C1E/WKUP (PWM) (3.3V) (io), 11 PA1/ADC1/RT52/T2C2 (PWM) (3.3V) (io), 12 PA2/ADC2/TX2/T2C3 (PWM) (3.3V) (io), 13 PA3/ADC3/RX2/T2C4 (PWM) (3.3V) (io), 14 PA4/ADC4/NSS1/CK2 (3.3V) (io), 15 PA5/ADC5/SCK1 (3.3V) (io), 16 PA6/ADC6/MISO1/T3C1/T1BKIN (PWM) (3.3V) (io), 17 PA7/ADC7/MOSI1/T3C2/T1C1N (PWM) (3.3V) (io), 18 (3.3V) (PWM) T1C2N/T3C3/ADC8/PB0 (io), 19 (3.3V) (PWM) T1C3N/T3C4/ADC9/PB1 (io), 20 BOOT1/PB2 (io), 21 T2C3N/TX3/SCL2/PB10 (io), 22 T2C4N/RX3/SDA2/PB11 (io), 23 VSS_1 (power), 24 VDD_1 (power), 25 CK3/T1BKIN/NSS2/PB12 (io), 26 CTS3/T1C1N/SCK2/PB13 (io), 27 RTS3/T1C2N/MISO2/PB14 (io), 28 T1C3N/MOSI2/PB15 (io), 29 PA8/CK1/T1C1/MCO (PWM) (io), 30 PA9/TX1/T1C2 (PWM) (io), 31 PA10/RX1/T1C3 (PWM) (io), 32 PA11/USB-/CTS1/T1C4/CANRX (io), 33 PA12/USB+/RTS1/T1ETR/CANTX (io), 34 PA13/JTMS/SWDIO (io), 35 VSS_2 (power), 36 VDD_2 (power), 37 PA14/JTMS/SWCLK (io), 38 PA15/JTDI/NSS1/T2C1E (io), 39 T2C2/SCK1/JTD0/PB3 (io), 40 T3C1/MISO1/JTRST/PB4 (io), 41 (3.3V) T2C2/MOSI1/SMBAI1/PB5 (io), 42 (PWM) TX1/T4C1/SCL1/PB6 (io), 43 (PWM) RX1/T4C2/SDA1/PB7 (io), 44 BOOT0 (in), 45 (PWM) CANRX/SCL1/T4C3/PB8 (io), 46 (PWM) CANTX/SDA1/T4C4/PB9 (io), 47 VSS_3 (power), 48 VDD_3 (power)

## STM32F103T8U6
designator U?
pins: 1 VDD_3, 2 OSC_IN, 3 OSC_OUT, 4 NRST, 5 VSSA, 6 VDDA, 7 PA0-WKUP, 8 PA1 - ADC12_IN1, 9 PA2 - ADC12_IN2, 10 PA3 - ADC12_IN3, 11 PA4 - SPI1_NSS/ADC12_IN4, 12 PA5 - SPI1_SCK/ADC12_IN5, 13 PA6 - SPI1_MISO/ADC12_IN6, 14 PA7 - SPI1_MOSI/ADC12_IN7, 15 PB0 - ADC12_IN8, 16 PB1 - ADC12_IN9, 17 PB2 - BOOT1 , 18 VSS_1, 19 VDD_1, 20 PA8 - TIM1_CH1, 21 PA9 - USART1_TX, 22 PA10 - USART1_RX, 23 PA11 - CAN_RX, 24 PA12 - CAN_TX, 25 PA13 - SWDIO, 26 VSS_2, 27 VDD_2, 28 PA14 - SWCLK, 29 PA15, 30 PB3, 31 PB4, 32 PB5, 33 PB6 - I2C_SCL, 34 PB7 - I2C_SDA, 35 BOOT0, 36 VSS_3

## STM32F413RGT6
designator U?
IC MCU 32BIT 1MB FLASH 64LQFP; Manufacturer: STMicroelectronics; Max Supply Voltage: 3.6V; Number Of Uart Channels: 7; Data Bus Width: 32bits; Number Of Pwm Channels: 32; Max Junction Temp: +105°C; Number Of A/D Converters: 1; Core Architecture: ARM Cortex-M4; Number Of Timers/Counters: 15; Min Supply Voltage: 1.7V; Memory Size: 1MBytes; Standoff Height: 0.05mm; Number Of Spi Channels: 5; Number Of Adc Channels: 16; Number Of I2C Channels: 4; Ram Size: 320KBytes; Interface: I2C,SPI,UART,USART,CAN,USB,LIN,IrDA,I2S,Other; Frequency: 100MHz; Number Of I/Os: 50; Nominal Supply Current: 25-180mA; Ambient Temperature Range High: +85°C; Ipc Land Pattern Name: QFP50P1200X1200X160-64; Temperature Range High: +105°C; Lead Free: Yes; Ambient Temperature Range Low: -40°C; Digikey Description: IC MCU 32BIT 1MB FLASH 64LQFP; Device Class L3: Microcontrollers; Temperature: -40°C to +105°C; Temperature Range Low: -40°C; Number Of Cores: 1; ComponentLink2Description: Datasheet; Category: IC; Device Class L1: Integrated Circuits (ICs); Package: LQFP64-5W; Height: 1.6mm; ComponentLink2URL: http://www.st.com/content/ccc/resource/technical/document/datasheet/group3/f6/1d/4a/d9/f9/96/43/2a/DM00282249/files/DM00282249.pdf/jcr:content/translations/en.DM00282249.pdf; Manufacturer Part Number: STM32F413RGT6; RoHS: TRUE; Memory Type: FLASH; Number Of Usb Channels: 1; Device Class L2: Embedded Processors and Controllers; Automotive: No; Octopart: https://octopart.com/stm32f413rgt6-stmicroelectronics-76512522
footprint FP-LQFP64-5W-MFG
part A pins: 1 VBAT (power), 7 ~{RST} (io), 12 VSSA/VREF- (power), 13 VDDA/VREF+ (power), 18 VSS (power), 19 VDD (power), 30 VCAP 1 (power), 31 VSS (power), 32 VDD (power), 47 VSS (power), 48 VDD (power), 60 BOOT0 (in), 63 VSS (power), 64 VDD (power)
part B pins: 2 PC13 (io), 3 PC14-OSC32 IN (io), 4 PC15-OSC32 OUT (io), 5 PH0-OSC IN (io), 6 PH1-OSC OUT (io), 8 PC0 (io), 9 PC1 (io), 10 PC2 (io), 11 PC3 (io), 14 PA0 (io), 15 PA1 (io), 16 PA2 (io), 17 PA3 (io), 20 PA4 (io), 21 PA5 (io), 22 PA6 (io), 23 PA7 (io), 24 PC4 (io), 25 PC5 (io), 26 PB0 (io), 27 PB1 (io), 28 PB2 (io), 29 PB10 (io), 33 PB12 (io), 34 PB13 (io), 35 PB14 (io), 36 PB15 (io), 37 PC6 (io), 38 PC7 (io), 39 PC8 (io), 40 PC9 (io), 41 PA8 (io), 42 PA9 (io), 43 PA10 (io), 44 PA11 (io), 45 PA12 (io), 46 PA13 (io), 49 PA14 (io), 50 PA15 (io), 51 PC10 (io), 52 PC11 (io), 53 PC12 (io), 54 PD2 (io), 55 PB3 (io), 56 PB4 (io), 57 PB5 (io), 58 PB6 (io), 59 PB7 (io), 61 PB8 (io), 62 PB9 (io)

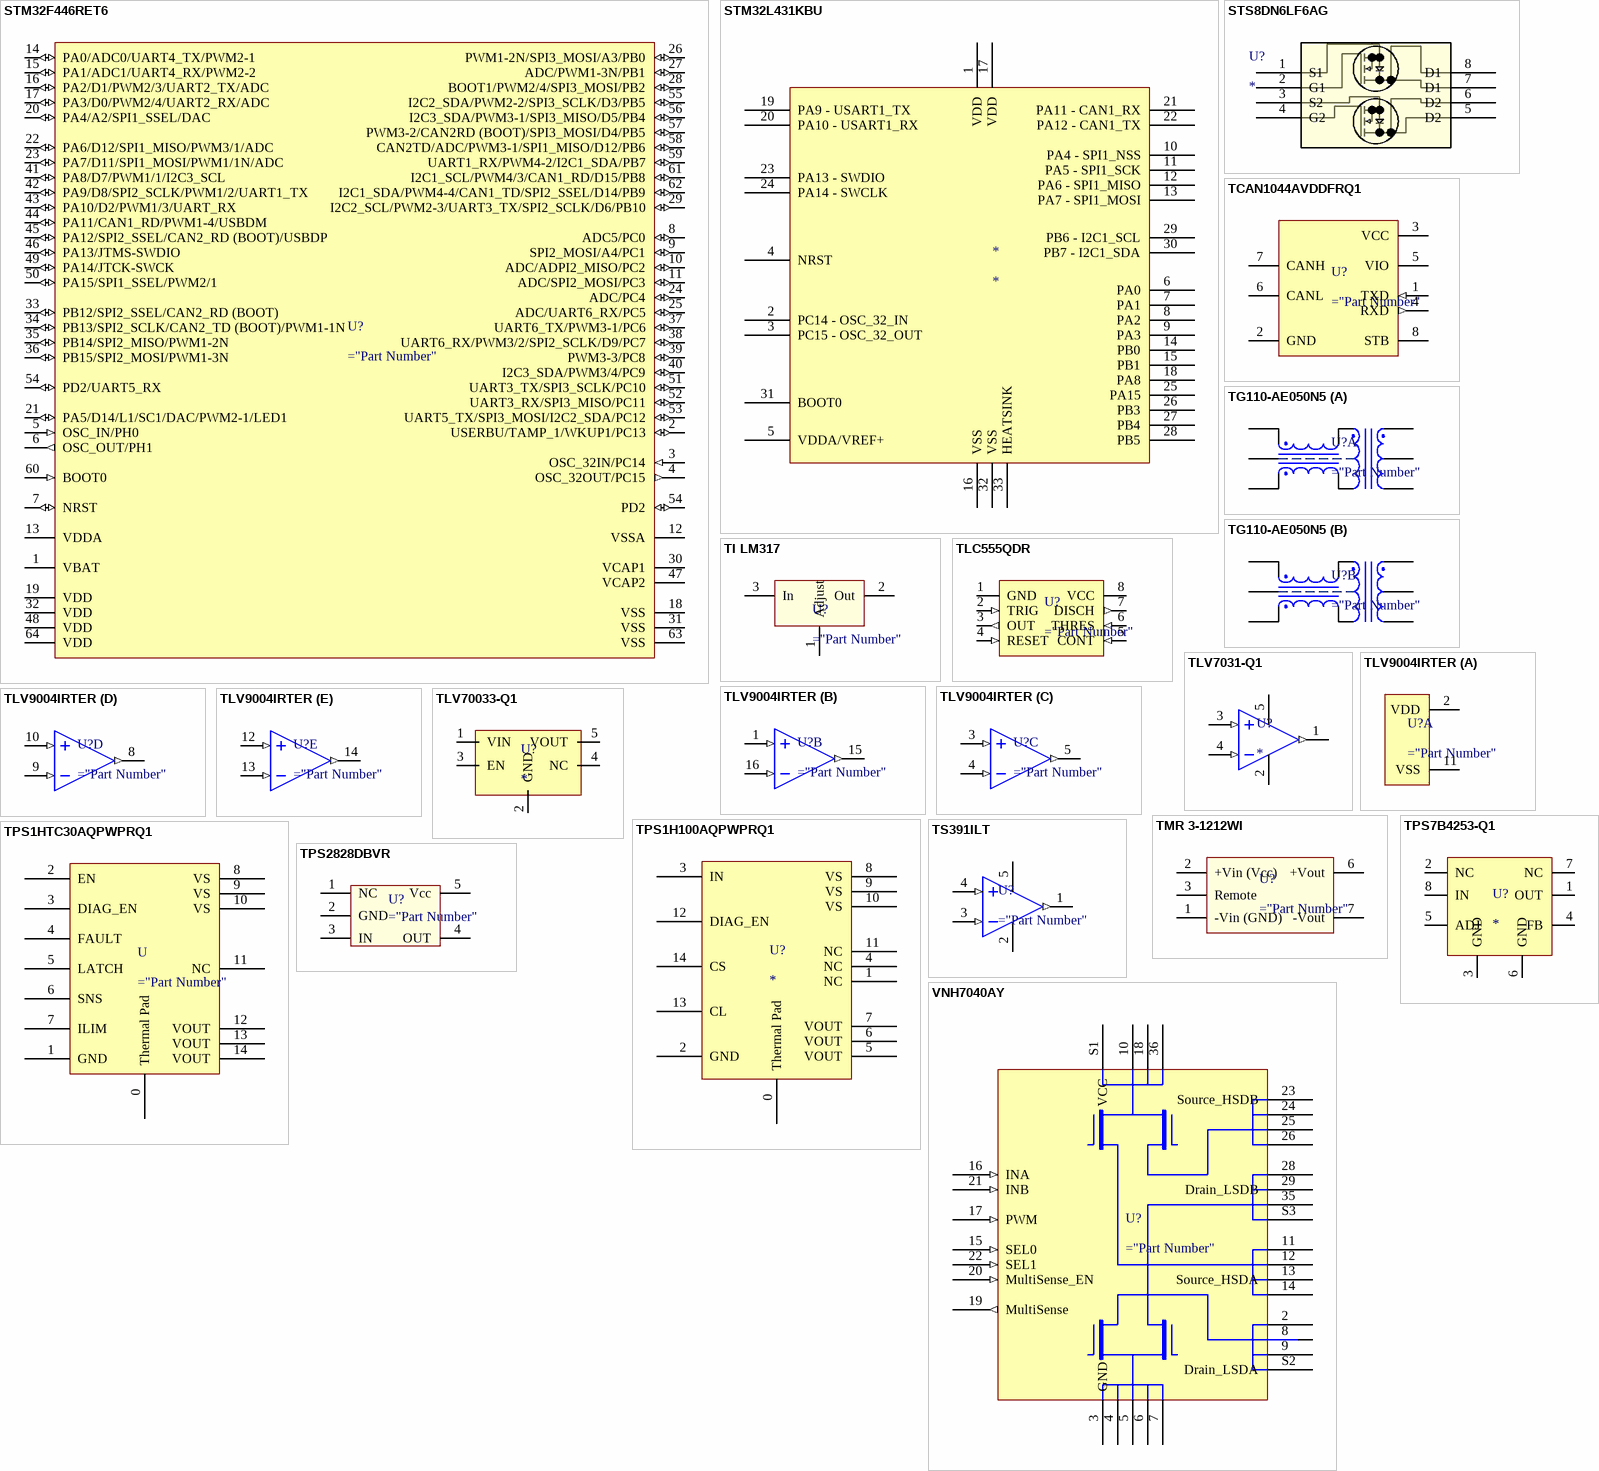
[diagram p5: symbols STM32F446RET6 to VNH7040AY]

## STM32F446RET6
designator U?
pins: 1 VBAT (power), 2 USERBU/TAMP_1/WKUP1/PC13 (io), 3 OSC_32IN/PC14 (in), 4 OSC_32OUT/PC15 (out), 5 OSC_IN/PH0 (in), 6 OSC_OUT/PH1 (out), 7 NRST (io), 8 ADC5/PC0 (io) "Output", 9 SPI2_MOSI/A4/PC1 (io) "Output", 10 ADC/ADPI2_MISO/PC2 (io) "Output", 11 ADC/SPI2_MOSI/PC3 (io) "Output", 12 VSSA (power), 13 VDDA (power), 14 PA0/ADC0/UART4_TX/PWM2-1 (io) "Output", 15 PA1/ADC1/UART4_RX/PWM2-2 (io) "Output", 16 PA2/D1/PWM2/3/UART2_TX/ADC (io) "Output", 17 PA3/D0/PWM2/4/UART2_RX/ADC (io) "Output", 18 VSS (power) "Output", 19 VDD (power) "Output", 20 PA4/A2/SPI1_SSEL/DAC (io) "Output", 21 PA5/D14/L1/SC1/DAC/PWM2-1/LED1 (io) "Output", 22 PA6/D12/SPI1_MISO/PWM3/1/ADC (io) "Output", 23 PA7/D11/SPI1_MOSI/PWM1/1N/ADC (io) "Output", 24 ADC/PC4 (io) "Output", 25 ADC/UART6_RX/PC5 (io) "Output", 26 PWM1-2N/SPI3_MOSI/A3/PB0 (io) "Output", 27 ADC/PWM1-3N/PB1 (io) "Output", 28 BOOT1/PWM2/4/SPI3_MOSI/PB2 (io) "Output", 29 I2C2_SCL/PWM2-3/UART3_TX/SPI2_SCLK/D6/PB10 (io) "Output", 30 VCAP1 (power) "Output", 31 VSS (power), 32 VDD (power), 33 PB12/SPI2_SSEL/CAN2_RD (BOOT) (io) "Output", 34 PB13/SPI2_SCLK/CAN2_TD (BOOT)/PWM1-1N (io) "Output", 35 PB14/SPI2_MISO/PWM1-2N (io) "Output", 36 PB15/SPI2_MOSI/PWM1-3N (io) "Output", 37 UART6_TX/PWM3-1/PC6 (io) "Output", 38 UART6_RX/PWM3/2/SPI2_SCLK/D9/PC7 (io) "Output", 39 PWM3-3/PC8 (io) "Output", 40 I2C3_SDA/PWM3/4/PC9 (io) "Output", 41 PA8/D7/PWM1/1/I2C3_SCL (io) "Output", 42 PA9/D8/SPI2_SCLK/PWM1/2/UART1_TX (io) "Output", 43 PA10/D2/PWM1/3/UART_RX (io) "Output", 44 PA11/CAN1_RD/PWM1-4/USBDM (io) "Output", 45 PA12/SPI2_SSEL/CAN2_RD (BOOT)/USBDP (io) "Output", 46 PA13/JTMS-SWDIO (io) "Output", 47 VCAP2 (power), 48 VDD (power), 49 PA14/JTCK-SWCK (io) "Output", 50 PA15/SPI1_SSEL/PWM2/1 (io) "Output", 51 UART3_TX/SPI3_SCLK/PC10 (io) "Output", 52 UART3_RX/SPI3_MISO/PC11 (io) "Output", 53 UART5_TX/SPI3_MOSI/I2C2_SDA/PC12 (io) "Output", 54 PD2 (io) "Output", 54 PD2/UART5_RX (io) "Output", 55 I2C2_SDA/PWM2-2/SPI3_SCLK/D3/PB5 (io) "Output", 56 I2C3_SDA/PWM3-1/SPI3_MISO/D5/PB4 (io) "Output", 57 PWM3-2/CAN2RD (BOOT)/SPI3_MOSI/D4/PB5 (io) "Output", 58 CAN2TD/ADC/PWM3-1/SPI1_MISO/D12/PB6 (io) "Output", 59 UART1_RX/PWM4-2/I2C1_SDA/PB7 (io) "Output", 60 BOOT0 (in), 61 I2C1_SCL/PWM4/3/CAN1_RD/D15/PB8 (io) "Output", 62 I2C1_SDA/PWM4-4/CAN1_TD/SPI2_SSEL/D14/PB9 (io) "Output", 63 VSS (power), 64 VDD (power)

## STM32L431KBU
designator *
pins: 1 VDD, 2 PC14 - OSC_32_IN, 3 PC15 - OSC_32_OUT, 4 NRST, 5 VDDA/VREF+, 6 PA0, 7 PA1, 8 PA2, 9 PA3, 10 PA4 - SPI1_NSS, 11 PA5 - SPI1_SCK, 12 PA6 - SPI1_MISO, 13 PA7 - SPI1_MOSI, 14 PB0, 15 PB1, 16 VSS, 17 VDD, 18 PA8, 19 PA9 - USART1_TX, 20 PA10 - USART1_RX, 21 PA11 - CAN1_RX, 22 PA12 - CAN1_TX, 23 PA13 - SWDIO, 24 PA14 - SWCLK, 25 PA15, 26 PB3, 27 PB4, 28 PB5, 29 PB6 - I2C1_SCL, 30 PB7 - I2C1_SDA, 31 BOOT0, 32 VSS, 33 HEATSINK

## STS8DN6LF6AG
designator U?
No Description Available; Mfr_Name: STMicroelectronics; RefDes: RefDes; Type: Type
footprint SO-8_STM
pins: 1 S1, 2 G1, 3 S2, 4 G2, 5 D2, 6 D2, 7 D1, 8 D1

## TCAN1044AVDDFRQ1
designator U?
pins: 1 TXD (in), 2 GND (power), 3 VCC (power), 4 RXD (out), 5 VIO (power), 6 CANL (power), 7 CANH (power), 8 STB (power)

## TG110-AE050N5
designator U?
part A pins: 1, 2, 3, 14, 15, 16
part B pins: 6, 7, 8, 9, 10, 11

## TI LM317
designator U?
pins: 1 Adjust, 2 Out, 3 In

## TLC555QDR
designator U?
pins: 1 GND, 2 TRIG (in), 3 OUT (out), 4 RESET (in), 5 CONT (in), 6 THRES (in), 7 DISCH (out), 8 VCC (power)

## TLV7031-Q1
designator U?
pins: 1 OUT (out), 2 V- (power) "Serial Data Input", 3 IN+ (in), 4 IN- (in), 5 Vcc (power) "Serial Data Input"

## TLV9004IRTER
designator U?
footprint TI 14-SOIC
part A pins: 2 VDD (power), 11 VSS (power)
part B pins: 1 1IN+ (in), 15 1OUT (out), 16 1IN+ (in)
part C pins: 3 2IN+ (in), 4 2IN- (in), 5 2OUT (out)
part D pins: 8 3OUT (out), 9 3IN- (in), 10 3IN+ (in)
part E pins: 12 4IN+ (in), 13 4IN- (in), 14 4OUT (out)

## TLV70033-Q1
designator U?
pins: 1 VIN, 2 GND, 3 EN, 4 NC, 5 VOUT

## TMR 3-1212WI
designator U?
pins: 1 -Vin (GND), 2 +Vin (Vcc), 3 Remote, 6 +Vout, 7 -Vout

## TPS1H100AQPWPRQ1
designator U?
IC PWR SWTCH N-CHAN 1:1 14HTSSOP
pins: 0 Thermal Pad, 1 NC, 2 GND, 3 IN, 4 NC, 5 VOUT, 6 VOUT, 7 VOUT, 8 VS, 9 VS, 10 VS, 11 NC, 12 DIAG_EN, 13 CL, 14 CS

## TPS1HTC30AQPWPRQ1
designator U
pins: 0 Thermal Pad, 1 GND, 2 EN, 3 DIAG_EN, 4 FAULT, 5 LATCH, 6 SNS, 7 ILIM, 8 VS, 9 VS, 10 VS, 11 NC, 12 VOUT, 13 VOUT, 14 VOUT

## TPS7B4253-Q1
designator U?
pins: 1 OUT, 2 NC, 3 GND, 4 FB, 5 ADJ, 6 GND, 7 NC, 8 IN

## TPS2828DBVR
designator U?
pins: 1 NC, 2 GND, 3 IN, 4 OUT, 5 Vcc

## TS391ILT
designator U?
pins: 1 OUT (out), 2 VCC- (power), 3 IN- (in), 4 IIN+ (in), 5 VCC+ (power)

## VNH7040AY
designator U?
pins: 2 Drain_LSDA (power), 3 GND (power), 4 GND (power), 5 GND (power), 6 GND (power), 7 GND (power), 8 Drain_LSDA (power), 9 Drain_LSDA (power), 10 VCC (power), 11 Source_HSDA (power), 12 Source_HSDA (power), 13 Source_HSDA (power), 14 Source_HSDA (power), 15 SEL0 (in) "Address the Multisense Multiplexer", 16 INA (in) "Clockwise Input", 17 PWM (in) "PWM Input", 18 VCC (power), 19 MultiSense (out) "MultiSense Output", 20 MultiSense_EN (in) "Enable MultiSense", 21 INB (in) "Counter Clockwise Input", 22 SEL1 (in) "Address the MultiSense Multiplexer", 23 Source_HSDB (power), 24 Source_HSDB (power), 25 Source_HSDB (power), 26 Source_HSDB (power), 28 Drain_LSDB (power) "Slug 1", 29 Drain_LSDB (power) "Slug 1", 35 Drain_LSDB (power) "Slug 1", 36 VCC (power), S1 VCC (power) "Slug 1", S2 Drain_LSDA (power) "Slug 2", S3 Drain_LSDB (power)